# Altium integrated library Altera MAX 7000B.IntLib: 128 symbols (part 2 of 9)
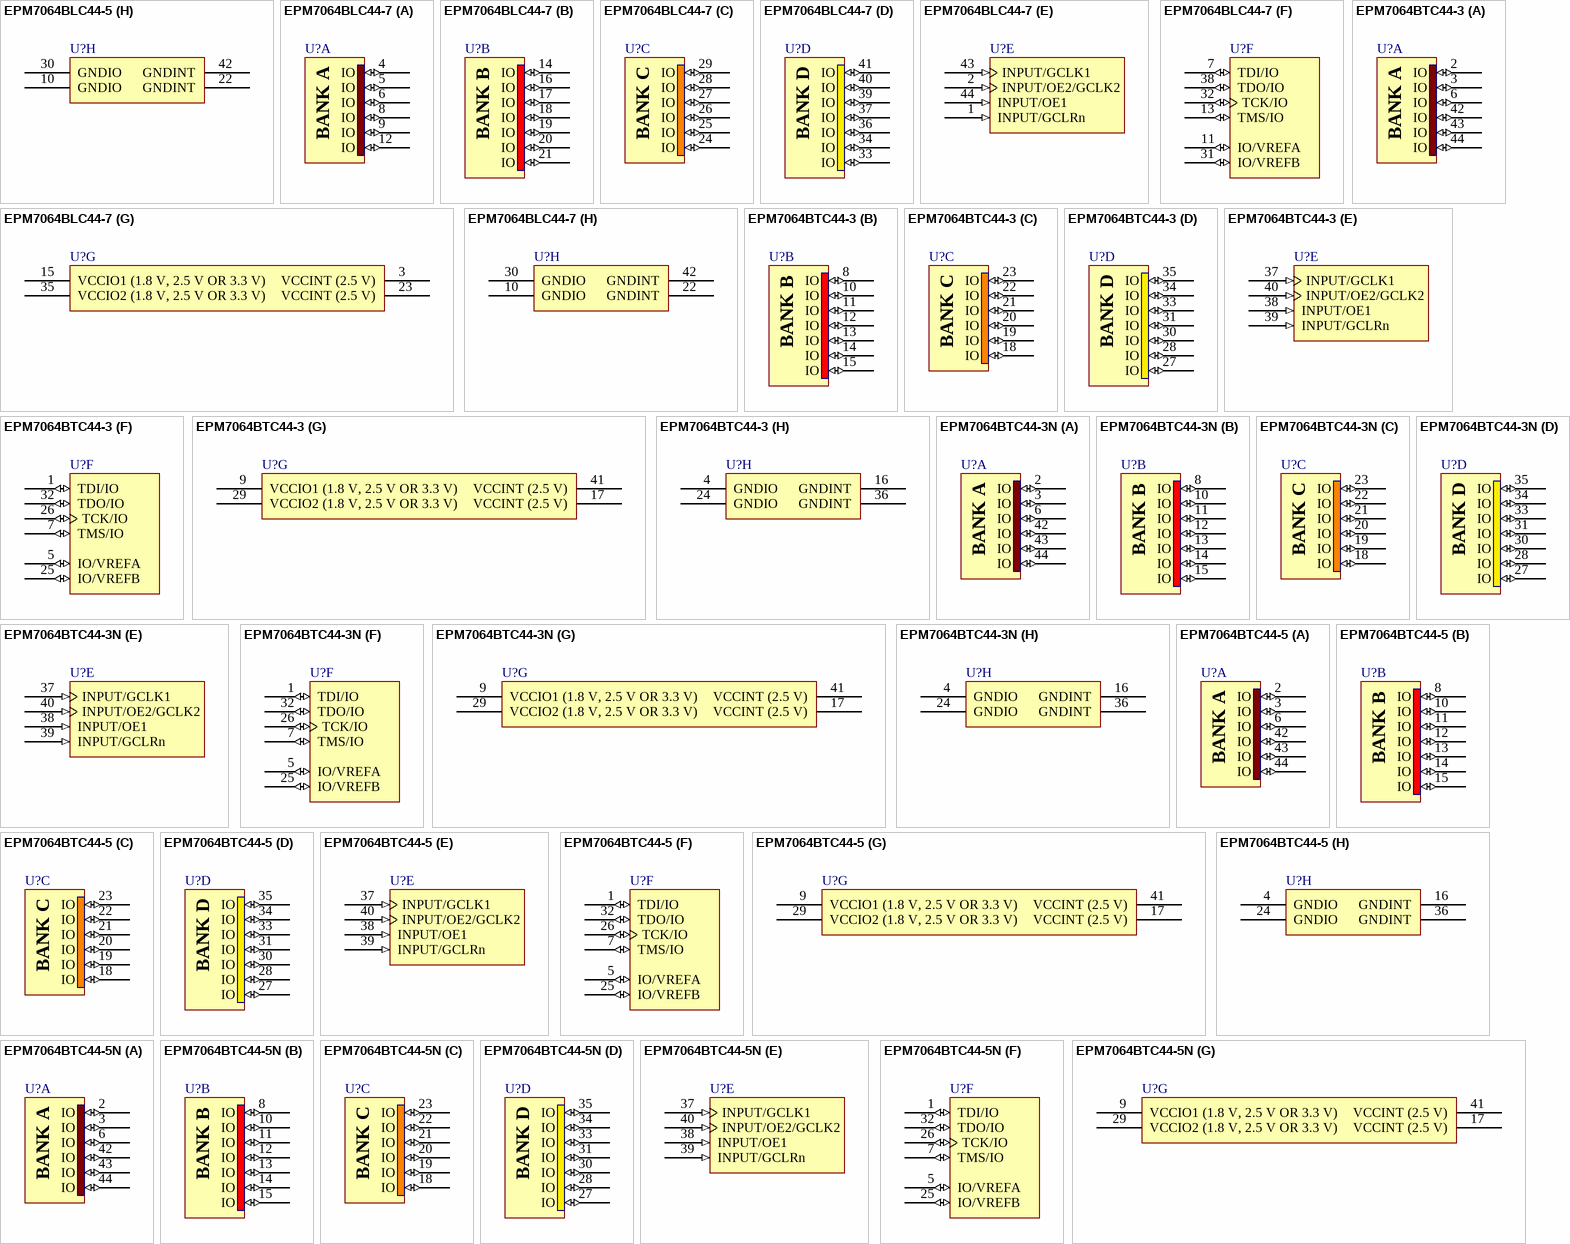
[diagram p48: symbols EPM7064BLC44-5 to EPM7064BTC44-5N]

## EPM7064BTC44-3
designator U?
Max 7000B 2.5V CPLD, 64 Macrocells, 44-Pin TQFP, Speed Grade 3, Commercial Grade; Published: 23-Sep-2002; LatestRevisionDate: 13-Apr-2006; LatestRevisionNote: IPC-7351 Footprint Added.; DatasheetVersion: ver3.5, Sep-2005; PackageVersion: ver14.3, Jul-2006; PackageReference: TQFP44; Publisher: Altium Limited; PackageDescription: 44-Pin Plastic Thin Quad Flat Pack (TFQP44); Supplier 1: Digi-Key; Supplier Part Number 1: 544-2296-ND; Code_JEDEC: MS-026-ACB; ComponentLink1Description: Manufacturer Link; ComponentLink1URL: http://www.altera.com/products/devices/max7k/m7k-index.html; ComponentLink2Description: Datasheet; ComponentLink2URL: http://www.altera.com/literature/ds/m7000b.pdf; ComponentLink3Description: Packaging Specification; ComponentLink3URL: http://www.altera.com/literature/ds/dspkg.pdf
footprint TQFP44_N (Thin QFP, 44-Leads, Body 10x10mm, Pitch 0.8mm, IPC Medium Density)
footprint TQFP44_L (Thin QFP, 44-Leads, Body 10x10mm, Pitch 0.8mm, IPC High Density)
footprint TQFP44_M (Thin QFP, 44-Leads, Body 10x10mm, Pitch 0.8mm, IPC Low Density)
3D model EPM7064B-TQFP44 (44-Pin Plastic Thin Quad Flat Pack (TFQP44))
signal-integrity model 7kb (MAX 7000B)
part A pins: 2 IO (io), 3 IO (io), 6 IO (io), 42 IO (io), 43 IO (io), 44 IO (io)
part B pins: 8 IO (io), 10 IO (io), 11 IO (io), 12 IO (io), 13 IO (io), 14 IO (io), 15 IO (io)
part C pins: 18 IO (io), 19 IO (io), 20 IO (io), 21 IO (io), 22 IO (io), 23 IO (io)
part D pins: 27 IO (io), 28 IO (io), 30 IO (io), 31 IO (io), 33 IO (io), 34 IO (io), 35 IO (io)
part E pins: 37 INPUT/GCLK1 (in), 38 INPUT/OE1 (in), 39 INPUT/GCLRn (in), 40 INPUT/OE2/GCLK2 (in)
part F pins: 1 TDI/IO (io), 5 IO/VREFA (io), 7 TMS/IO (io), 25 IO/VREFB (io), 26 TCK/IO (io), 32 TDO/IO (io)
part G pins: 9 VCCIO1 (1.8 V, 2.5 V OR 3.3 V) (power), 17 VCCINT (2.5 V) (power), 29 VCCIO2 (1.8 V, 2.5 V OR 3.3 V) (power), 41 VCCINT (2.5 V) (power)
part H pins: 4 GNDIO (power), 16 GNDINT (power), 24 GNDIO (power), 36 GNDINT (power)
part A text: BANK A
part B text: BANK B
part C text: BANK C
part D text: BANK D

## EPM7064BTC44-3N
designator U?
Max 7000B 2.5V CPLD, 64 Macrocells, 44-Pin TQFP, Speed Grade 3, Commercial Grade, Pb-Free; Published: 13-Apr-2006; DatasheetVersion: ver3.5, Sep-2005; PackageVersion: ver14.3, Jul-2006; PackageReference: TQFP44; Publisher: Altium Limited; PackageDescription: 44-Pin Plastic Thin Quad Flat Pack (TFQP44); Code_JEDEC: MS-026-ACB; ComponentLink1Description: Manufacturer Link; ComponentLink1URL: http://www.altera.com/products/devices/max7k/m7k-index.html; ComponentLink2Description: Datasheet; ComponentLink2URL: http://www.altera.com/literature/ds/m7000b.pdf; ComponentLink3Description: Packaging Specification; ComponentLink3URL: http://www.altera.com/literature/ds/dspkg.pdf
footprint TQFP44_N (Thin QFP, 44-Leads, Body 10x10mm, Pitch 0.8mm, IPC Medium Density)
footprint TQFP44_L (Thin QFP, 44-Leads, Body 10x10mm, Pitch 0.8mm, IPC High Density)
footprint TQFP44_M (Thin QFP, 44-Leads, Body 10x10mm, Pitch 0.8mm, IPC Low Density)
3D model EPM7064B-TQFP44 (44-Pin Plastic Thin Quad Flat Pack (TFQP44))
signal-integrity model 7kb (MAX 7000B)
part A pins: 2 IO (io), 3 IO (io), 6 IO (io), 42 IO (io), 43 IO (io), 44 IO (io)
part B pins: 8 IO (io), 10 IO (io), 11 IO (io), 12 IO (io), 13 IO (io), 14 IO (io), 15 IO (io)
part C pins: 18 IO (io), 19 IO (io), 20 IO (io), 21 IO (io), 22 IO (io), 23 IO (io)
part D pins: 27 IO (io), 28 IO (io), 30 IO (io), 31 IO (io), 33 IO (io), 34 IO (io), 35 IO (io)
part E pins: 37 INPUT/GCLK1 (in), 38 INPUT/OE1 (in), 39 INPUT/GCLRn (in), 40 INPUT/OE2/GCLK2 (in)
part F pins: 1 TDI/IO (io), 5 IO/VREFA (io), 7 TMS/IO (io), 25 IO/VREFB (io), 26 TCK/IO (io), 32 TDO/IO (io)
part G pins: 9 VCCIO1 (1.8 V, 2.5 V OR 3.3 V) (power), 17 VCCINT (2.5 V) (power), 29 VCCIO2 (1.8 V, 2.5 V OR 3.3 V) (power), 41 VCCINT (2.5 V) (power)
part H pins: 4 GNDIO (power), 16 GNDINT (power), 24 GNDIO (power), 36 GNDINT (power)
part A text: BANK A
part B text: BANK B
part C text: BANK C
part D text: BANK D

## EPM7064BTC44-5
designator U?
Max 7000B 2.5V CPLD, 64 Macrocells, 44-Pin TQFP, Speed Grade 5, Commercial Grade; Published: 23-Sep-2002; LatestRevisionDate: 13-Apr-2006; LatestRevisionNote: IPC-7351 Footprint Added.; DatasheetVersion: ver3.5, Sep-2005; PackageVersion: ver14.3, Jul-2006; PackageReference: TQFP44; Publisher: Altium Limited; PackageDescription: 44-Pin Plastic Thin Quad Flat Pack (TFQP44); Code_JEDEC: MS-026-ACB; ComponentLink1Description: Manufacturer Link; ComponentLink1URL: http://www.altera.com/products/devices/max7k/m7k-index.html; ComponentLink2Description: Datasheet; ComponentLink2URL: http://www.altera.com/literature/ds/m7000b.pdf; ComponentLink3Description: Packaging Specification; ComponentLink3URL: http://www.altera.com/literature/ds/dspkg.pdf
footprint TQFP44_N (Thin QFP, 44-Leads, Body 10x10mm, Pitch 0.8mm, IPC Medium Density)
footprint TQFP44_L (Thin QFP, 44-Leads, Body 10x10mm, Pitch 0.8mm, IPC High Density)
footprint TQFP44_M (Thin QFP, 44-Leads, Body 10x10mm, Pitch 0.8mm, IPC Low Density)
3D model EPM7064B-TQFP44 (44-Pin Plastic Thin Quad Flat Pack (TFQP44))
signal-integrity model 7kb (MAX 7000B)
part A pins: 2 IO (io), 3 IO (io), 6 IO (io), 42 IO (io), 43 IO (io), 44 IO (io)
part B pins: 8 IO (io), 10 IO (io), 11 IO (io), 12 IO (io), 13 IO (io), 14 IO (io), 15 IO (io)
part C pins: 18 IO (io), 19 IO (io), 20 IO (io), 21 IO (io), 22 IO (io), 23 IO (io)
part D pins: 27 IO (io), 28 IO (io), 30 IO (io), 31 IO (io), 33 IO (io), 34 IO (io), 35 IO (io)
part E pins: 37 INPUT/GCLK1 (in), 38 INPUT/OE1 (in), 39 INPUT/GCLRn (in), 40 INPUT/OE2/GCLK2 (in)
part F pins: 1 TDI/IO (io), 5 IO/VREFA (io), 7 TMS/IO (io), 25 IO/VREFB (io), 26 TCK/IO (io), 32 TDO/IO (io)
part G pins: 9 VCCIO1 (1.8 V, 2.5 V OR 3.3 V) (power), 17 VCCINT (2.5 V) (power), 29 VCCIO2 (1.8 V, 2.5 V OR 3.3 V) (power), 41 VCCINT (2.5 V) (power)
part H pins: 4 GNDIO (power), 16 GNDINT (power), 24 GNDIO (power), 36 GNDINT (power)
part A text: BANK A
part B text: BANK B
part C text: BANK C
part D text: BANK D

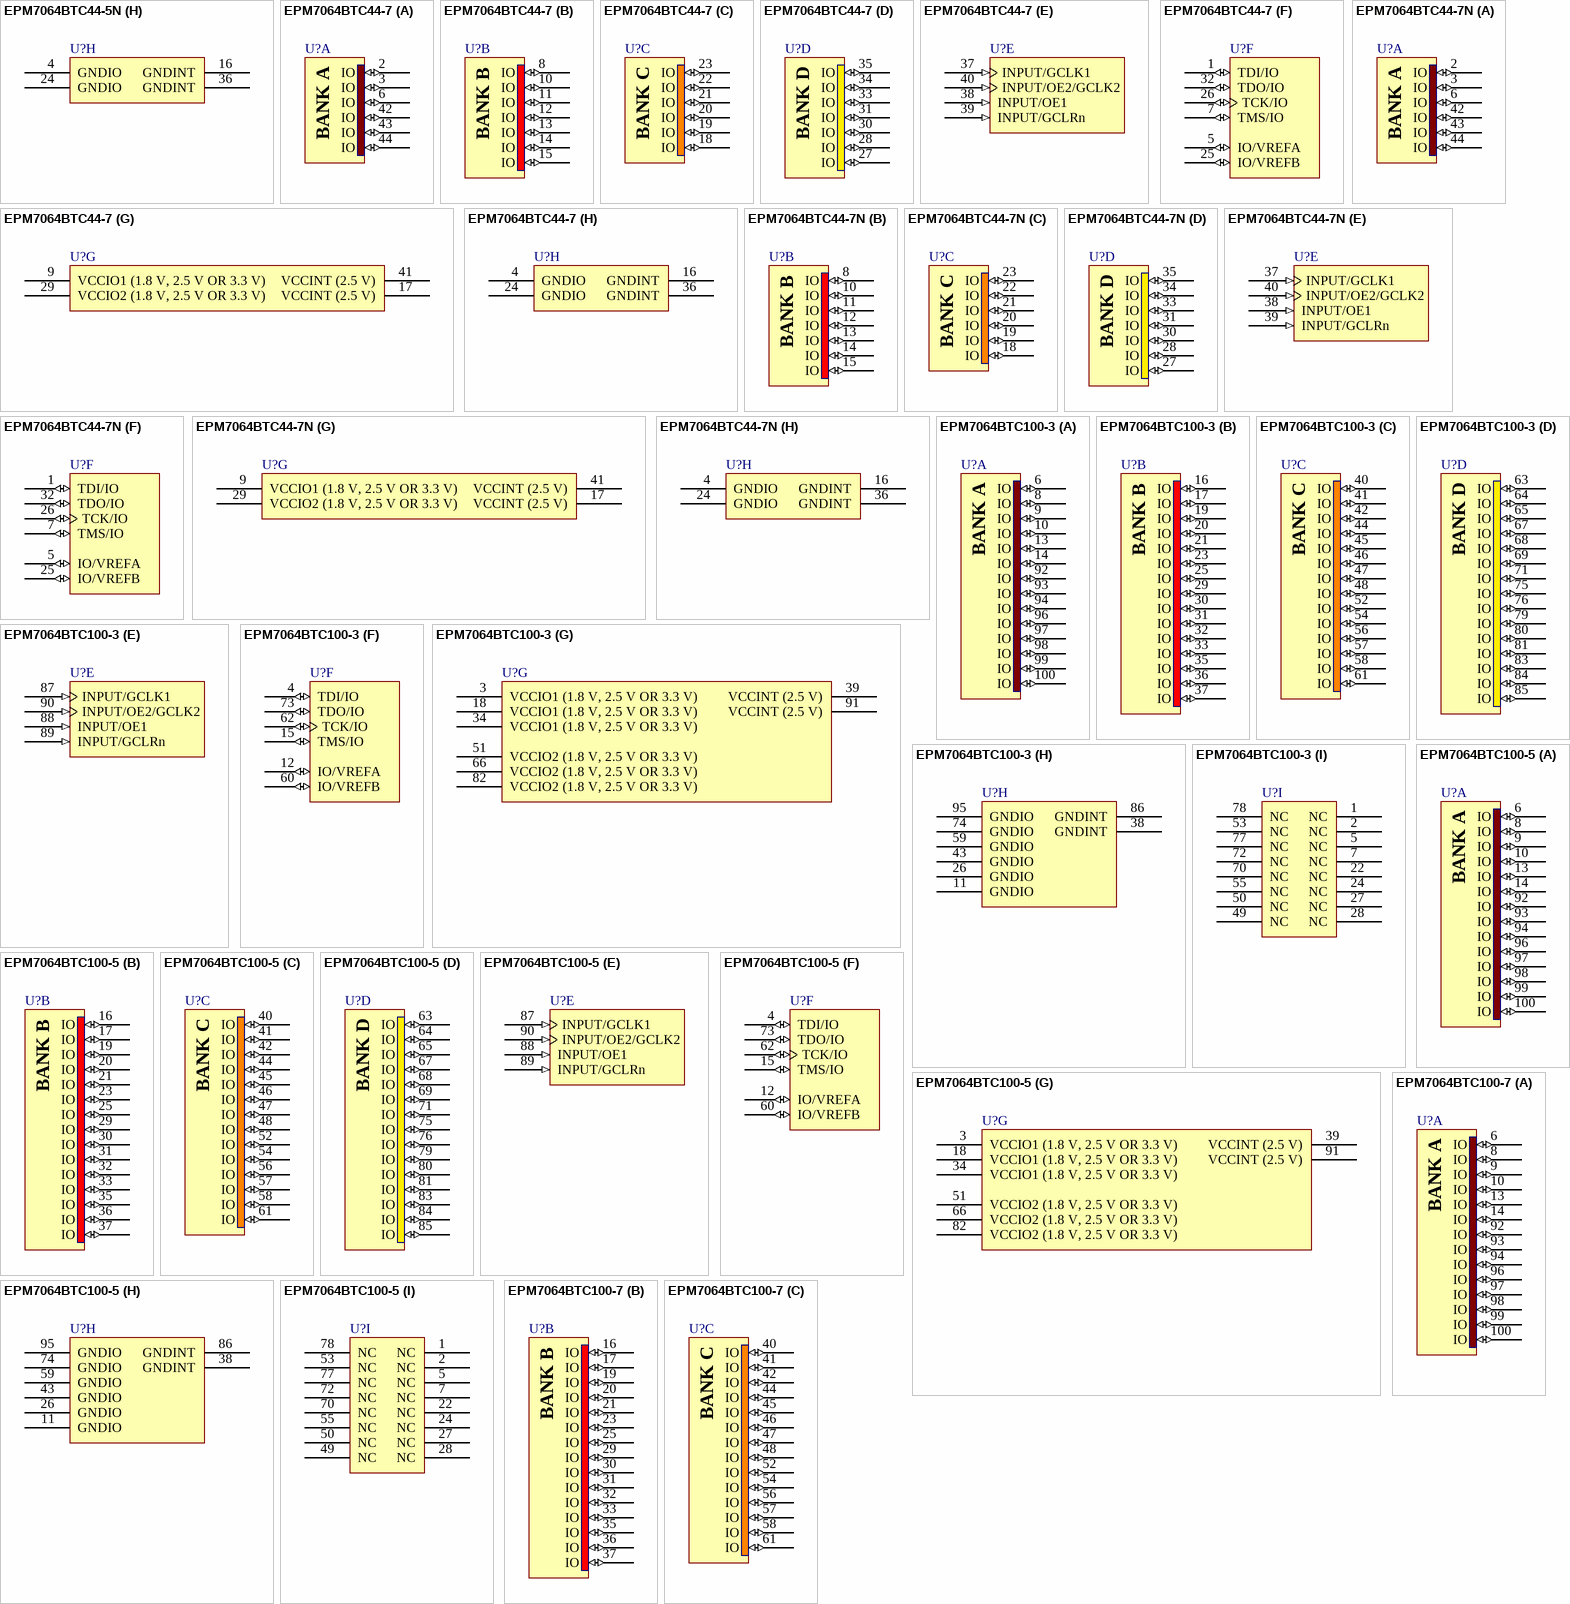
[diagram p6: symbols EPM7064BTC44-5N to EPM7064BTC100-7]

## EPM7064BTC44-5N
designator U?
Max 7000B 2.5V CPLD, 64 Macrocells, 44-Pin TQFP, Speed Grade 5, Commercial Grade, Pb-Free; Published: 13-Apr-2006; DatasheetVersion: ver3.5, Sep-2005; PackageVersion: ver14.3, Jul-2006; PackageReference: TQFP44; Publisher: Altium Limited; PackageDescription: 44-Pin Plastic Thin Quad Flat Pack (TFQP44); Code_JEDEC: MS-026-ACB; ComponentLink1Description: Manufacturer Link; ComponentLink1URL: http://www.altera.com/products/devices/max7k/m7k-index.html; ComponentLink2Description: Datasheet; ComponentLink2URL: http://www.altera.com/literature/ds/m7000b.pdf; ComponentLink3Description: Packaging Specification; ComponentLink3URL: http://www.altera.com/literature/ds/dspkg.pdf
footprint TQFP44_N (Thin QFP, 44-Leads, Body 10x10mm, Pitch 0.8mm, IPC Medium Density)
footprint TQFP44_L (Thin QFP, 44-Leads, Body 10x10mm, Pitch 0.8mm, IPC High Density)
footprint TQFP44_M (Thin QFP, 44-Leads, Body 10x10mm, Pitch 0.8mm, IPC Low Density)
3D model EPM7064B-TQFP44 (44-Pin Plastic Thin Quad Flat Pack (TFQP44))
signal-integrity model 7kb (MAX 7000B)
part A pins: 2 IO (io), 3 IO (io), 6 IO (io), 42 IO (io), 43 IO (io), 44 IO (io)
part B pins: 8 IO (io), 10 IO (io), 11 IO (io), 12 IO (io), 13 IO (io), 14 IO (io), 15 IO (io)
part C pins: 18 IO (io), 19 IO (io), 20 IO (io), 21 IO (io), 22 IO (io), 23 IO (io)
part D pins: 27 IO (io), 28 IO (io), 30 IO (io), 31 IO (io), 33 IO (io), 34 IO (io), 35 IO (io)
part E pins: 37 INPUT/GCLK1 (in), 38 INPUT/OE1 (in), 39 INPUT/GCLRn (in), 40 INPUT/OE2/GCLK2 (in)
part F pins: 1 TDI/IO (io), 5 IO/VREFA (io), 7 TMS/IO (io), 25 IO/VREFB (io), 26 TCK/IO (io), 32 TDO/IO (io)
part G pins: 9 VCCIO1 (1.8 V, 2.5 V OR 3.3 V) (power), 17 VCCINT (2.5 V) (power), 29 VCCIO2 (1.8 V, 2.5 V OR 3.3 V) (power), 41 VCCINT (2.5 V) (power)
part H pins: 4 GNDIO (power), 16 GNDINT (power), 24 GNDIO (power), 36 GNDINT (power)
part A text: BANK A
part B text: BANK B
part C text: BANK C
part D text: BANK D

## EPM7064BTC44-7
designator U?
Max 7000B 2.5V CPLD, 64 Macrocells, 44-Pin TQFP, Speed Grade 7, Commercial Grade; Published: 23-Sep-2002; LatestRevisionDate: 13-Apr-2006; LatestRevisionNote: IPC-7351 Footprint Added.; DatasheetVersion: ver3.5, Sep-2005; PackageVersion: ver14.3, Jul-2006; PackageReference: TQFP44; Publisher: Altium Limited; PackageDescription: 44-Pin Plastic Thin Quad Flat Pack (TFQP44); Code_JEDEC: MS-026-ACB; ComponentLink1Description: Manufacturer Link; ComponentLink1URL: http://www.altera.com/products/devices/max7k/m7k-index.html; ComponentLink2Description: Datasheet; ComponentLink2URL: http://www.altera.com/literature/ds/m7000b.pdf; ComponentLink3Description: Packaging Specification; ComponentLink3URL: http://www.altera.com/literature/ds/dspkg.pdf
footprint TQFP44_N (Thin QFP, 44-Leads, Body 10x10mm, Pitch 0.8mm, IPC Medium Density)
footprint TQFP44_L (Thin QFP, 44-Leads, Body 10x10mm, Pitch 0.8mm, IPC High Density)
footprint TQFP44_M (Thin QFP, 44-Leads, Body 10x10mm, Pitch 0.8mm, IPC Low Density)
3D model EPM7064B-TQFP44 (44-Pin Plastic Thin Quad Flat Pack (TFQP44))
signal-integrity model 7kb (MAX 7000B)
part A pins: 2 IO (io), 3 IO (io), 6 IO (io), 42 IO (io), 43 IO (io), 44 IO (io)
part B pins: 8 IO (io), 10 IO (io), 11 IO (io), 12 IO (io), 13 IO (io), 14 IO (io), 15 IO (io)
part C pins: 18 IO (io), 19 IO (io), 20 IO (io), 21 IO (io), 22 IO (io), 23 IO (io)
part D pins: 27 IO (io), 28 IO (io), 30 IO (io), 31 IO (io), 33 IO (io), 34 IO (io), 35 IO (io)
part E pins: 37 INPUT/GCLK1 (in), 38 INPUT/OE1 (in), 39 INPUT/GCLRn (in), 40 INPUT/OE2/GCLK2 (in)
part F pins: 1 TDI/IO (io), 5 IO/VREFA (io), 7 TMS/IO (io), 25 IO/VREFB (io), 26 TCK/IO (io), 32 TDO/IO (io)
part G pins: 9 VCCIO1 (1.8 V, 2.5 V OR 3.3 V) (power), 17 VCCINT (2.5 V) (power), 29 VCCIO2 (1.8 V, 2.5 V OR 3.3 V) (power), 41 VCCINT (2.5 V) (power)
part H pins: 4 GNDIO (power), 16 GNDINT (power), 24 GNDIO (power), 36 GNDINT (power)
part A text: BANK A
part B text: BANK B
part C text: BANK C
part D text: BANK D

## EPM7064BTC44-7N
designator U?
Max 7000B 2.5V CPLD, 64 Macrocells, 44-Pin TQFP, Speed Grade 7, Commercial Grade, Pb-Free; Published: 4-Mar-2005; LatestRevisionDate: 13-Apr-2006; LatestRevisionNote: IPC-7351 Footprint Added.; DatasheetVersion: ver3.5, Sep-2005; PackageVersion: ver14.3, Jul-2006; PackageReference: TQFP44; Publisher: Altium Limited; PackageDescription: 44-Pin Plastic Thin Quad Flat Pack (TFQP44); Code_JEDEC: MS-026-ACB; ComponentLink1Description: Manufacturer Link; ComponentLink1URL: http://www.altera.com/products/devices/max7k/m7k-index.html; ComponentLink2Description: Datasheet; ComponentLink2URL: http://www.altera.com/literature/ds/m7000b.pdf; ComponentLink3Description: Packaging Specification; ComponentLink3URL: http://www.altera.com/literature/ds/dspkg.pdf
footprint TQFP44_N (Thin QFP, 44-Leads, Body 10x10mm, Pitch 0.8mm, IPC Medium Density)
footprint TQFP44_L (Thin QFP, 44-Leads, Body 10x10mm, Pitch 0.8mm, IPC High Density)
footprint TQFP44_M (Thin QFP, 44-Leads, Body 10x10mm, Pitch 0.8mm, IPC Low Density)
3D model EPM7064B-TQFP44 (44-Pin Plastic Thin Quad Flat Pack (TFQP44))
signal-integrity model 7kb (MAX 7000B)
part A pins: 2 IO (io), 3 IO (io), 6 IO (io), 42 IO (io), 43 IO (io), 44 IO (io)
part B pins: 8 IO (io), 10 IO (io), 11 IO (io), 12 IO (io), 13 IO (io), 14 IO (io), 15 IO (io)
part C pins: 18 IO (io), 19 IO (io), 20 IO (io), 21 IO (io), 22 IO (io), 23 IO (io)
part D pins: 27 IO (io), 28 IO (io), 30 IO (io), 31 IO (io), 33 IO (io), 34 IO (io), 35 IO (io)
part E pins: 37 INPUT/GCLK1 (in), 38 INPUT/OE1 (in), 39 INPUT/GCLRn (in), 40 INPUT/OE2/GCLK2 (in)
part F pins: 1 TDI/IO (io), 5 IO/VREFA (io), 7 TMS/IO (io), 25 IO/VREFB (io), 26 TCK/IO (io), 32 TDO/IO (io)
part G pins: 9 VCCIO1 (1.8 V, 2.5 V OR 3.3 V) (power), 17 VCCINT (2.5 V) (power), 29 VCCIO2 (1.8 V, 2.5 V OR 3.3 V) (power), 41 VCCINT (2.5 V) (power)
part H pins: 4 GNDIO (power), 16 GNDINT (power), 24 GNDIO (power), 36 GNDINT (power)
part A text: BANK A
part B text: BANK B
part C text: BANK C
part D text: BANK D

## EPM7064BTC100-3
designator U?
Max 7000B 2.5V CPLD, 64 Macrocells, 100-Pin TQFP, Speed Grade 3, Commercial Grade; Published: 17-Sep-2003; LatestRevisionDate: 13-Apr-2006; LatestRevisionNote: IPC-7351 Footprint Added.; DatasheetVersion: ver3.5, Sep-2005; PackageVersion: ver15.1, May-2008; PackageReference: TQFP100; Publisher: Altium Limited; PackageDescription: 100-Pin Plastic Thin Quad Flat Pack (TQFP100) - Wire Bond; Code_JEDEC: MS-026-AED; ComponentLink1Description: Manufacturer Link; ComponentLink1URL: http://www.altera.com/products/devices/max7k/m7k-index.html; ComponentLink2Description: Datasheet; ComponentLink2URL: http://www.altera.com/literature/ds/m7000b.pdf; ComponentLink3Description: Packaging Specification; ComponentLink3URL: http://www.altera.com/literature/ds/dspkg.pdf
footprint TQFP100_N (Thin QFP, 100-Leads, Body 14x14mm, Pitch 0.5mm, IPC Medium Density)
footprint TQFP100_L (Thin QFP, 100-Leads, Body 14x14mm, Pitch 0.5mm, IPC High Density)
footprint TQFP100_M (Thin QFP, 100-Leads, Body 14x14mm, Pitch 0.5mm, IPC Low Density)
3D model EPM7064B-TQFP100 (100-Pin Plastic Thin Quad Flat Pack (TQFP100) - Wire Bond)
signal-integrity model 7kb (MAX 7000B)
part A pins: 6 IO (io), 8 IO (io), 9 IO (io), 10 IO (io), 13 IO (io), 14 IO (io), 92 IO (io), 93 IO (io), 94 IO (io), 96 IO (io), 97 IO (io), 98 IO (io), 99 IO (io), 100 IO (io)
part B pins: 16 IO (io), 17 IO (io), 19 IO (io), 20 IO (io), 21 IO (io), 23 IO (io), 25 IO (io), 29 IO (io), 30 IO (io), 31 IO (io), 32 IO (io), 33 IO (io), 35 IO (io), 36 IO (io), 37 IO (io)
part C pins: 40 IO (io), 41 IO (io), 42 IO (io), 44 IO (io), 45 IO (io), 46 IO (io), 47 IO (io), 48 IO (io), 52 IO (io), 54 IO (io), 56 IO (io), 57 IO (io), 58 IO (io), 61 IO (io)
part D pins: 63 IO (io), 64 IO (io), 65 IO (io), 67 IO (io), 68 IO (io), 69 IO (io), 71 IO (io), 75 IO (io), 76 IO (io), 79 IO (io), 80 IO (io), 81 IO (io), 83 IO (io), 84 IO (io), 85 IO (io)
part E pins: 87 INPUT/GCLK1 (in), 88 INPUT/OE1 (in), 89 INPUT/GCLRn (in), 90 INPUT/OE2/GCLK2 (in)
part F pins: 4 TDI/IO (io), 12 IO/VREFA (io), 15 TMS/IO (io), 60 IO/VREFB (io), 62 TCK/IO (io), 73 TDO/IO (io)
part G pins: 3 VCCIO1 (1.8 V, 2.5 V OR 3.3 V) (power), 18 VCCIO1 (1.8 V, 2.5 V OR 3.3 V) (power), 34 VCCIO1 (1.8 V, 2.5 V OR 3.3 V) (power), 39 VCCINT (2.5 V) (power), 51 VCCIO2 (1.8 V, 2.5 V OR 3.3 V) (power), 66 VCCIO2 (1.8 V, 2.5 V OR 3.3 V) (power), 82 VCCIO2 (1.8 V, 2.5 V OR 3.3 V) (power), 91 VCCINT (2.5 V) (power)
part H pins: 11 GNDIO (power), 26 GNDIO (power), 38 GNDINT (power), 43 GNDIO (power), 59 GNDIO (power), 74 GNDIO (power), 86 GNDINT (power), 95 GNDIO (power)
part I pins: 1 NC, 2 NC, 5 NC, 7 NC, 22 NC, 24 NC, 27 NC, 28 NC, 49 NC, 50 NC, 53 NC, 55 NC, 70 NC, 72 NC, 77 NC, 78 NC
part A text: BANK A
part B text: BANK B
part C text: BANK C
part D text: BANK D

## EPM7064BTC100-5
designator U?
Max 7000B 2.5V CPLD, 64 Macrocells, 100-Pin TQFP, Speed Grade 5, Commercial Grade; Published: 17-Sep-2003; LatestRevisionDate: 13-Apr-2006; LatestRevisionNote: IPC-7351 Footprint Added.; DatasheetVersion: ver3.5, Sep-2005; PackageVersion: ver15.1, May-2008; PackageReference: TQFP100; Publisher: Altium Limited; PackageDescription: 100-Pin Plastic Thin Quad Flat Pack (TQFP100) - Wire Bond; Supplier 1: Digi-Key; Supplier Part Number 1: EPM7064BTC100-5-ND; Code_JEDEC: MS-026-AED; ComponentLink1Description: Manufacturer Link; ComponentLink1URL: http://www.altera.com/products/devices/max7k/m7k-index.html; ComponentLink2Description: Datasheet; ComponentLink2URL: http://www.altera.com/literature/ds/m7000b.pdf; ComponentLink3Description: Packaging Specification; ComponentLink3URL: http://www.altera.com/literature/ds/dspkg.pdf
footprint TQFP100_N (Thin QFP, 100-Leads, Body 14x14mm, Pitch 0.5mm, IPC Medium Density)
footprint TQFP100_L (Thin QFP, 100-Leads, Body 14x14mm, Pitch 0.5mm, IPC High Density)
footprint TQFP100_M (Thin QFP, 100-Leads, Body 14x14mm, Pitch 0.5mm, IPC Low Density)
3D model EPM7064B-TQFP100 (100-Pin Plastic Thin Quad Flat Pack (TQFP100) - Wire Bond)
signal-integrity model 7kb (MAX 7000B)
part A pins: 6 IO (io), 8 IO (io), 9 IO (io), 10 IO (io), 13 IO (io), 14 IO (io), 92 IO (io), 93 IO (io), 94 IO (io), 96 IO (io), 97 IO (io), 98 IO (io), 99 IO (io), 100 IO (io)
part B pins: 16 IO (io), 17 IO (io), 19 IO (io), 20 IO (io), 21 IO (io), 23 IO (io), 25 IO (io), 29 IO (io), 30 IO (io), 31 IO (io), 32 IO (io), 33 IO (io), 35 IO (io), 36 IO (io), 37 IO (io)
part C pins: 40 IO (io), 41 IO (io), 42 IO (io), 44 IO (io), 45 IO (io), 46 IO (io), 47 IO (io), 48 IO (io), 52 IO (io), 54 IO (io), 56 IO (io), 57 IO (io), 58 IO (io), 61 IO (io)
part D pins: 63 IO (io), 64 IO (io), 65 IO (io), 67 IO (io), 68 IO (io), 69 IO (io), 71 IO (io), 75 IO (io), 76 IO (io), 79 IO (io), 80 IO (io), 81 IO (io), 83 IO (io), 84 IO (io), 85 IO (io)
part E pins: 87 INPUT/GCLK1 (in), 88 INPUT/OE1 (in), 89 INPUT/GCLRn (in), 90 INPUT/OE2/GCLK2 (in)
part F pins: 4 TDI/IO (io), 12 IO/VREFA (io), 15 TMS/IO (io), 60 IO/VREFB (io), 62 TCK/IO (io), 73 TDO/IO (io)
part G pins: 3 VCCIO1 (1.8 V, 2.5 V OR 3.3 V) (power), 18 VCCIO1 (1.8 V, 2.5 V OR 3.3 V) (power), 34 VCCIO1 (1.8 V, 2.5 V OR 3.3 V) (power), 39 VCCINT (2.5 V) (power), 51 VCCIO2 (1.8 V, 2.5 V OR 3.3 V) (power), 66 VCCIO2 (1.8 V, 2.5 V OR 3.3 V) (power), 82 VCCIO2 (1.8 V, 2.5 V OR 3.3 V) (power), 91 VCCINT (2.5 V) (power)
part H pins: 11 GNDIO (power), 26 GNDIO (power), 38 GNDINT (power), 43 GNDIO (power), 59 GNDIO (power), 74 GNDIO (power), 86 GNDINT (power), 95 GNDIO (power)
part I pins: 1 NC, 2 NC, 5 NC, 7 NC, 22 NC, 24 NC, 27 NC, 28 NC, 49 NC, 50 NC, 53 NC, 55 NC, 70 NC, 72 NC, 77 NC, 78 NC
part A text: BANK A
part B text: BANK B
part C text: BANK C
part D text: BANK D

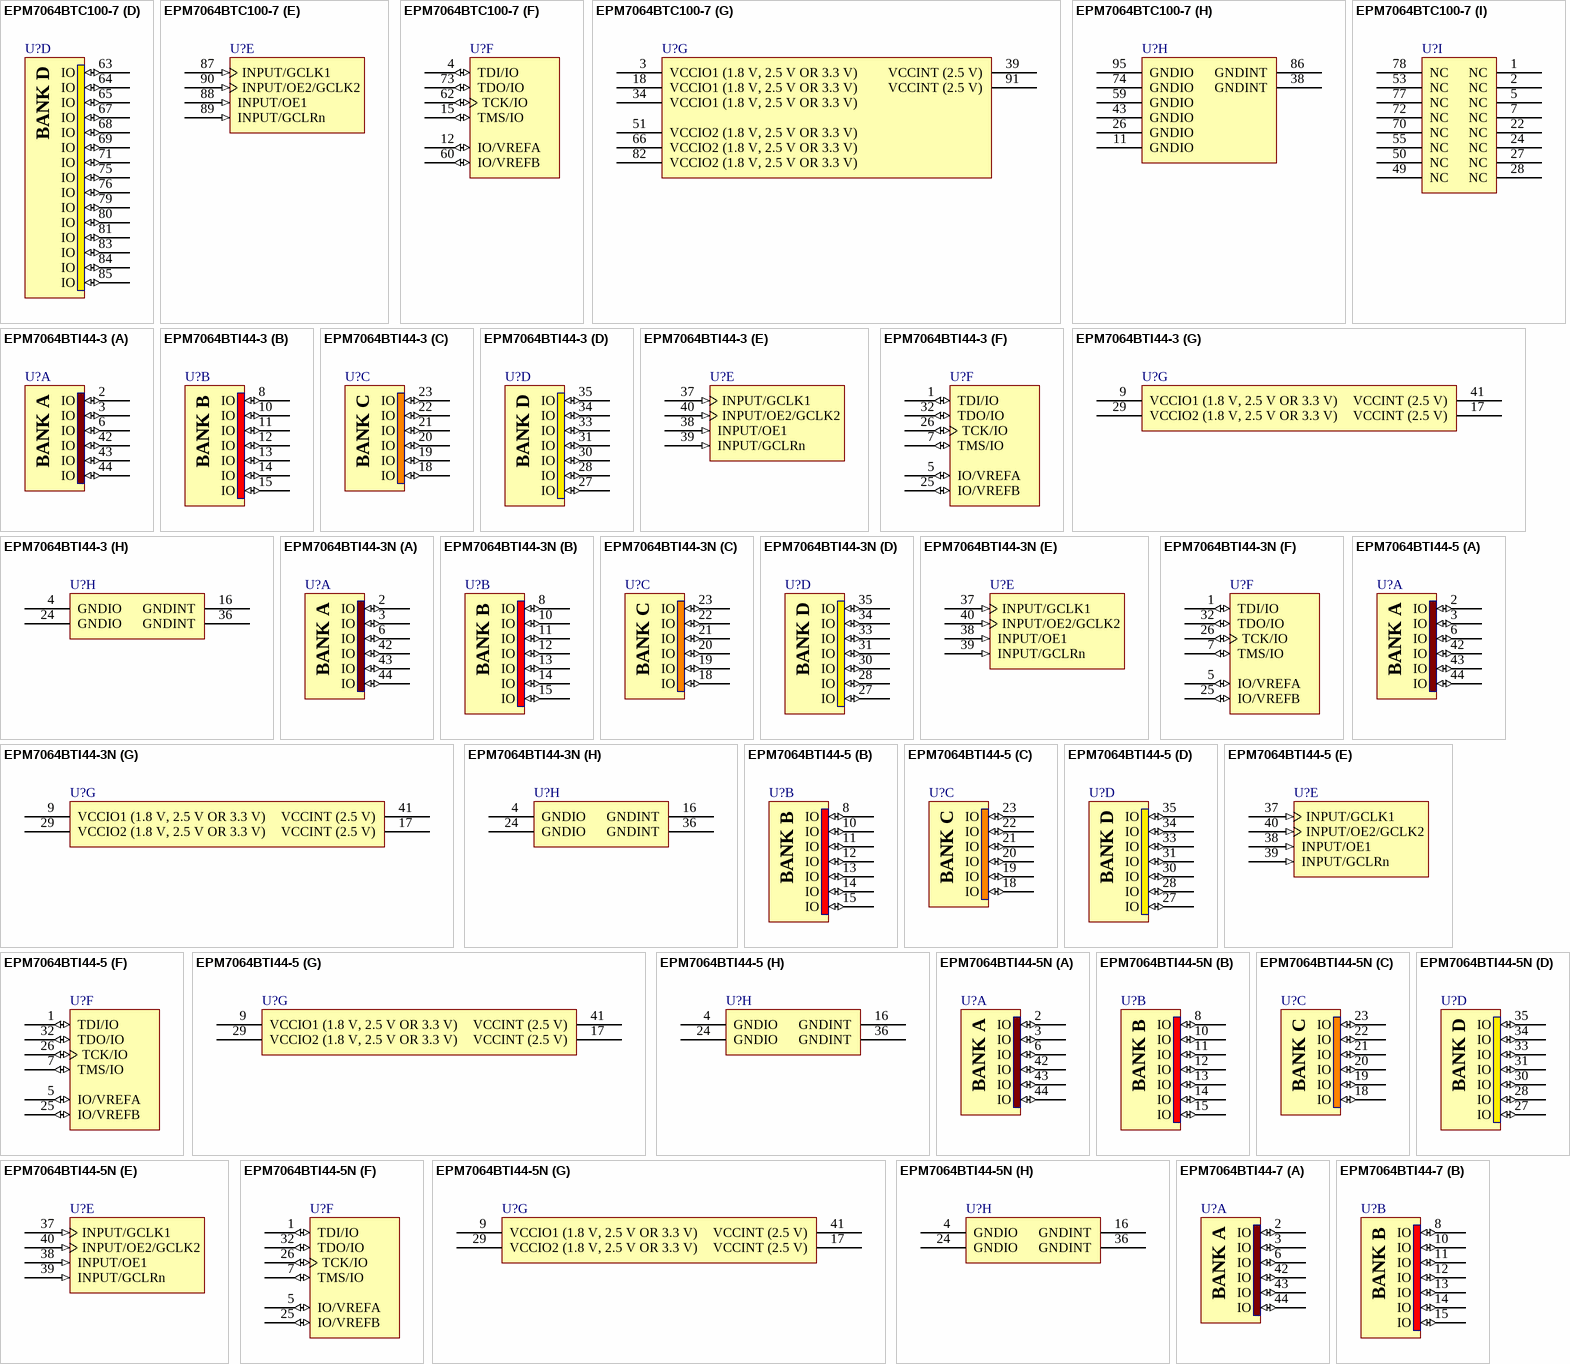
[diagram p7: symbols EPM7064BTC100-7 to EPM7064BTI44-7]

## EPM7064BTC100-7
designator U?
Max 7000B 2.5V CPLD, 64 Macrocells, 100-Pin TQFP, Speed Grade 7, Commercial Grade; Published: 23-Sep-2002; LatestRevisionDate: 13-Apr-2006; LatestRevisionNote: IPC-7351 Footprint Added.; DatasheetVersion: ver3.5, Sep-2005; PackageVersion: ver15.1, May-2008; PackageReference: TQFP100; Publisher: Altium Limited; PackageDescription: 100-Pin Plastic Thin Quad Flat Pack (TQFP100) - Wire Bond; Code_JEDEC: MS-026-AED; ComponentLink1Description: Manufacturer Link; ComponentLink1URL: http://www.altera.com/products/devices/max7k/m7k-index.html; ComponentLink2Description: Datasheet; ComponentLink2URL: http://www.altera.com/literature/ds/m7000b.pdf; ComponentLink3Description: Packaging Specification; ComponentLink3URL: http://www.altera.com/literature/ds/dspkg.pdf
footprint TQFP100_N (Thin QFP, 100-Leads, Body 14x14mm, Pitch 0.5mm, IPC Medium Density)
footprint TQFP100_L (Thin QFP, 100-Leads, Body 14x14mm, Pitch 0.5mm, IPC High Density)
footprint TQFP100_M (Thin QFP, 100-Leads, Body 14x14mm, Pitch 0.5mm, IPC Low Density)
3D model EPM7064B-TQFP100 (100-Pin Plastic Thin Quad Flat Pack (TQFP100) - Wire Bond)
signal-integrity model 7kb (MAX 7000B)
part A pins: 6 IO (io), 8 IO (io), 9 IO (io), 10 IO (io), 13 IO (io), 14 IO (io), 92 IO (io), 93 IO (io), 94 IO (io), 96 IO (io), 97 IO (io), 98 IO (io), 99 IO (io), 100 IO (io)
part B pins: 16 IO (io), 17 IO (io), 19 IO (io), 20 IO (io), 21 IO (io), 23 IO (io), 25 IO (io), 29 IO (io), 30 IO (io), 31 IO (io), 32 IO (io), 33 IO (io), 35 IO (io), 36 IO (io), 37 IO (io)
part C pins: 40 IO (io), 41 IO (io), 42 IO (io), 44 IO (io), 45 IO (io), 46 IO (io), 47 IO (io), 48 IO (io), 52 IO (io), 54 IO (io), 56 IO (io), 57 IO (io), 58 IO (io), 61 IO (io)
part D pins: 63 IO (io), 64 IO (io), 65 IO (io), 67 IO (io), 68 IO (io), 69 IO (io), 71 IO (io), 75 IO (io), 76 IO (io), 79 IO (io), 80 IO (io), 81 IO (io), 83 IO (io), 84 IO (io), 85 IO (io)
part E pins: 87 INPUT/GCLK1 (in), 88 INPUT/OE1 (in), 89 INPUT/GCLRn (in), 90 INPUT/OE2/GCLK2 (in)
part F pins: 4 TDI/IO (io), 12 IO/VREFA (io), 15 TMS/IO (io), 60 IO/VREFB (io), 62 TCK/IO (io), 73 TDO/IO (io)
part G pins: 3 VCCIO1 (1.8 V, 2.5 V OR 3.3 V) (power), 18 VCCIO1 (1.8 V, 2.5 V OR 3.3 V) (power), 34 VCCIO1 (1.8 V, 2.5 V OR 3.3 V) (power), 39 VCCINT (2.5 V) (power), 51 VCCIO2 (1.8 V, 2.5 V OR 3.3 V) (power), 66 VCCIO2 (1.8 V, 2.5 V OR 3.3 V) (power), 82 VCCIO2 (1.8 V, 2.5 V OR 3.3 V) (power), 91 VCCINT (2.5 V) (power)
part H pins: 11 GNDIO (power), 26 GNDIO (power), 38 GNDINT (power), 43 GNDIO (power), 59 GNDIO (power), 74 GNDIO (power), 86 GNDINT (power), 95 GNDIO (power)
part I pins: 1 NC, 2 NC, 5 NC, 7 NC, 22 NC, 24 NC, 27 NC, 28 NC, 49 NC, 50 NC, 53 NC, 55 NC, 70 NC, 72 NC, 77 NC, 78 NC
part A text: BANK A
part B text: BANK B
part C text: BANK C
part D text: BANK D

## EPM7064BTI44-3
designator U?
Max 7000B 2.5V CPLD, 64 Macrocells, 44-Pin TQFP, Speed Grade 3, Industrial Grade; Published: 17-Sep-2003; LatestRevisionDate: 13-Apr-2006; LatestRevisionNote: IPC-7351 Footprint Added.; DatasheetVersion: ver3.5, Sep-2005; PackageVersion: ver14.3, Jul-2006; PackageReference: TQFP44; Publisher: Altium Limited; PackageDescription: 44-Pin Plastic Thin Quad Flat Pack (TFQP44); Code_JEDEC: MS-026-ACB; ComponentLink1Description: Manufacturer Link; ComponentLink1URL: http://www.altera.com/products/devices/max7k/m7k-index.html; ComponentLink2Description: Datasheet; ComponentLink2URL: http://www.altera.com/literature/ds/m7000b.pdf; ComponentLink3Description: Packaging Specification; ComponentLink3URL: http://www.altera.com/literature/ds/dspkg.pdf
footprint TQFP44_N (Thin QFP, 44-Leads, Body 10x10mm, Pitch 0.8mm, IPC Medium Density)
footprint TQFP44_L (Thin QFP, 44-Leads, Body 10x10mm, Pitch 0.8mm, IPC High Density)
footprint TQFP44_M (Thin QFP, 44-Leads, Body 10x10mm, Pitch 0.8mm, IPC Low Density)
3D model EPM7064B-TQFP44 (44-Pin Plastic Thin Quad Flat Pack (TFQP44))
signal-integrity model 7kb (MAX 7000B)
part A pins: 2 IO (io), 3 IO (io), 6 IO (io), 42 IO (io), 43 IO (io), 44 IO (io)
part B pins: 8 IO (io), 10 IO (io), 11 IO (io), 12 IO (io), 13 IO (io), 14 IO (io), 15 IO (io)
part C pins: 18 IO (io), 19 IO (io), 20 IO (io), 21 IO (io), 22 IO (io), 23 IO (io)
part D pins: 27 IO (io), 28 IO (io), 30 IO (io), 31 IO (io), 33 IO (io), 34 IO (io), 35 IO (io)
part E pins: 37 INPUT/GCLK1 (in), 38 INPUT/OE1 (in), 39 INPUT/GCLRn (in), 40 INPUT/OE2/GCLK2 (in)
part F pins: 1 TDI/IO (io), 5 IO/VREFA (io), 7 TMS/IO (io), 25 IO/VREFB (io), 26 TCK/IO (io), 32 TDO/IO (io)
part G pins: 9 VCCIO1 (1.8 V, 2.5 V OR 3.3 V) (power), 17 VCCINT (2.5 V) (power), 29 VCCIO2 (1.8 V, 2.5 V OR 3.3 V) (power), 41 VCCINT (2.5 V) (power)
part H pins: 4 GNDIO (power), 16 GNDINT (power), 24 GNDIO (power), 36 GNDINT (power)
part A text: BANK A
part B text: BANK B
part C text: BANK C
part D text: BANK D

## EPM7064BTI44-3N
designator U?
Max 7000B 2.5V CPLD, 64 Macrocells, 44-Pin TQFP, Speed Grade 3, Industrial Grade, Pb-Free; Published: 13-Apr-2006; DatasheetVersion: ver3.5, Sep-2005; PackageVersion: ver14.3, Jul-2006; PackageReference: TQFP44; Publisher: Altium Limited; PackageDescription: 44-Pin Plastic Thin Quad Flat Pack (TFQP44); Code_JEDEC: MS-026-ACB; ComponentLink1Description: Manufacturer Link; ComponentLink1URL: http://www.altera.com/products/devices/max7k/m7k-index.html; ComponentLink2Description: Datasheet; ComponentLink2URL: http://www.altera.com/literature/ds/m7000b.pdf; ComponentLink3Description: Packaging Specification; ComponentLink3URL: http://www.altera.com/literature/ds/dspkg.pdf
footprint TQFP44_N (Thin QFP, 44-Leads, Body 10x10mm, Pitch 0.8mm, IPC Medium Density)
footprint TQFP44_L (Thin QFP, 44-Leads, Body 10x10mm, Pitch 0.8mm, IPC High Density)
footprint TQFP44_M (Thin QFP, 44-Leads, Body 10x10mm, Pitch 0.8mm, IPC Low Density)
3D model EPM7064B-TQFP44 (44-Pin Plastic Thin Quad Flat Pack (TFQP44))
signal-integrity model 7kb (MAX 7000B)
part A pins: 2 IO (io), 3 IO (io), 6 IO (io), 42 IO (io), 43 IO (io), 44 IO (io)
part B pins: 8 IO (io), 10 IO (io), 11 IO (io), 12 IO (io), 13 IO (io), 14 IO (io), 15 IO (io)
part C pins: 18 IO (io), 19 IO (io), 20 IO (io), 21 IO (io), 22 IO (io), 23 IO (io)
part D pins: 27 IO (io), 28 IO (io), 30 IO (io), 31 IO (io), 33 IO (io), 34 IO (io), 35 IO (io)
part E pins: 37 INPUT/GCLK1 (in), 38 INPUT/OE1 (in), 39 INPUT/GCLRn (in), 40 INPUT/OE2/GCLK2 (in)
part F pins: 1 TDI/IO (io), 5 IO/VREFA (io), 7 TMS/IO (io), 25 IO/VREFB (io), 26 TCK/IO (io), 32 TDO/IO (io)
part G pins: 9 VCCIO1 (1.8 V, 2.5 V OR 3.3 V) (power), 17 VCCINT (2.5 V) (power), 29 VCCIO2 (1.8 V, 2.5 V OR 3.3 V) (power), 41 VCCINT (2.5 V) (power)
part H pins: 4 GNDIO (power), 16 GNDINT (power), 24 GNDIO (power), 36 GNDINT (power)
part A text: BANK A
part B text: BANK B
part C text: BANK C
part D text: BANK D

## EPM7064BTI44-5
designator U?
Max 7000B 2.5V CPLD, 64 Macrocells, 44-Pin TQFP, Speed Grade 5, Industrial Grade; Published: 17-Sep-2003; LatestRevisionDate: 13-Apr-2006; LatestRevisionNote: IPC-7351 Footprint Added.; DatasheetVersion: ver3.5, Sep-2005; PackageVersion: ver14.3, Jul-2006; PackageReference: TQFP44; Publisher: Altium Limited; PackageDescription: 44-Pin Plastic Thin Quad Flat Pack (TFQP44); Code_JEDEC: MS-026-ACB; ComponentLink1Description: Manufacturer Link; ComponentLink1URL: http://www.altera.com/products/devices/max7k/m7k-index.html; ComponentLink2Description: Datasheet; ComponentLink2URL: http://www.altera.com/literature/ds/m7000b.pdf; ComponentLink3Description: Packaging Specification; ComponentLink3URL: http://www.altera.com/literature/ds/dspkg.pdf
footprint TQFP44_N (Thin QFP, 44-Leads, Body 10x10mm, Pitch 0.8mm, IPC Medium Density)
footprint TQFP44_L (Thin QFP, 44-Leads, Body 10x10mm, Pitch 0.8mm, IPC High Density)
footprint TQFP44_M (Thin QFP, 44-Leads, Body 10x10mm, Pitch 0.8mm, IPC Low Density)
3D model EPM7064B-TQFP44 (44-Pin Plastic Thin Quad Flat Pack (TFQP44))
signal-integrity model 7kb (MAX 7000B)
part A pins: 2 IO (io), 3 IO (io), 6 IO (io), 42 IO (io), 43 IO (io), 44 IO (io)
part B pins: 8 IO (io), 10 IO (io), 11 IO (io), 12 IO (io), 13 IO (io), 14 IO (io), 15 IO (io)
part C pins: 18 IO (io), 19 IO (io), 20 IO (io), 21 IO (io), 22 IO (io), 23 IO (io)
part D pins: 27 IO (io), 28 IO (io), 30 IO (io), 31 IO (io), 33 IO (io), 34 IO (io), 35 IO (io)
part E pins: 37 INPUT/GCLK1 (in), 38 INPUT/OE1 (in), 39 INPUT/GCLRn (in), 40 INPUT/OE2/GCLK2 (in)
part F pins: 1 TDI/IO (io), 5 IO/VREFA (io), 7 TMS/IO (io), 25 IO/VREFB (io), 26 TCK/IO (io), 32 TDO/IO (io)
part G pins: 9 VCCIO1 (1.8 V, 2.5 V OR 3.3 V) (power), 17 VCCINT (2.5 V) (power), 29 VCCIO2 (1.8 V, 2.5 V OR 3.3 V) (power), 41 VCCINT (2.5 V) (power)
part H pins: 4 GNDIO (power), 16 GNDINT (power), 24 GNDIO (power), 36 GNDINT (power)
part A text: BANK A
part B text: BANK B
part C text: BANK C
part D text: BANK D

## EPM7064BTI44-5N
designator U?
Max 7000B 2.5V CPLD, 64 Macrocells, 44-Pin TQFP, Speed Grade 5, Industrial Grade, Pb-Free; Published: 13-Apr-2006; DatasheetVersion: ver3.5, Sep-2005; PackageVersion: ver14.3, Jul-2006; PackageReference: TQFP44; Publisher: Altium Limited; PackageDescription: 44-Pin Plastic Thin Quad Flat Pack (TFQP44); Code_JEDEC: MS-026-ACB; ComponentLink1Description: Manufacturer Link; ComponentLink1URL: http://www.altera.com/products/devices/max7k/m7k-index.html; ComponentLink2Description: Datasheet; ComponentLink2URL: http://www.altera.com/literature/ds/m7000b.pdf; ComponentLink3Description: Packaging Specification; ComponentLink3URL: http://www.altera.com/literature/ds/dspkg.pdf
footprint TQFP44_N (Thin QFP, 44-Leads, Body 10x10mm, Pitch 0.8mm, IPC Medium Density)
footprint TQFP44_L (Thin QFP, 44-Leads, Body 10x10mm, Pitch 0.8mm, IPC High Density)
footprint TQFP44_M (Thin QFP, 44-Leads, Body 10x10mm, Pitch 0.8mm, IPC Low Density)
3D model EPM7064B-TQFP44 (44-Pin Plastic Thin Quad Flat Pack (TFQP44))
signal-integrity model 7kb (MAX 7000B)
part A pins: 2 IO (io), 3 IO (io), 6 IO (io), 42 IO (io), 43 IO (io), 44 IO (io)
part B pins: 8 IO (io), 10 IO (io), 11 IO (io), 12 IO (io), 13 IO (io), 14 IO (io), 15 IO (io)
part C pins: 18 IO (io), 19 IO (io), 20 IO (io), 21 IO (io), 22 IO (io), 23 IO (io)
part D pins: 27 IO (io), 28 IO (io), 30 IO (io), 31 IO (io), 33 IO (io), 34 IO (io), 35 IO (io)
part E pins: 37 INPUT/GCLK1 (in), 38 INPUT/OE1 (in), 39 INPUT/GCLRn (in), 40 INPUT/OE2/GCLK2 (in)
part F pins: 1 TDI/IO (io), 5 IO/VREFA (io), 7 TMS/IO (io), 25 IO/VREFB (io), 26 TCK/IO (io), 32 TDO/IO (io)
part G pins: 9 VCCIO1 (1.8 V, 2.5 V OR 3.3 V) (power), 17 VCCINT (2.5 V) (power), 29 VCCIO2 (1.8 V, 2.5 V OR 3.3 V) (power), 41 VCCINT (2.5 V) (power)
part H pins: 4 GNDIO (power), 16 GNDINT (power), 24 GNDIO (power), 36 GNDINT (power)
part A text: BANK A
part B text: BANK B
part C text: BANK C
part D text: BANK D

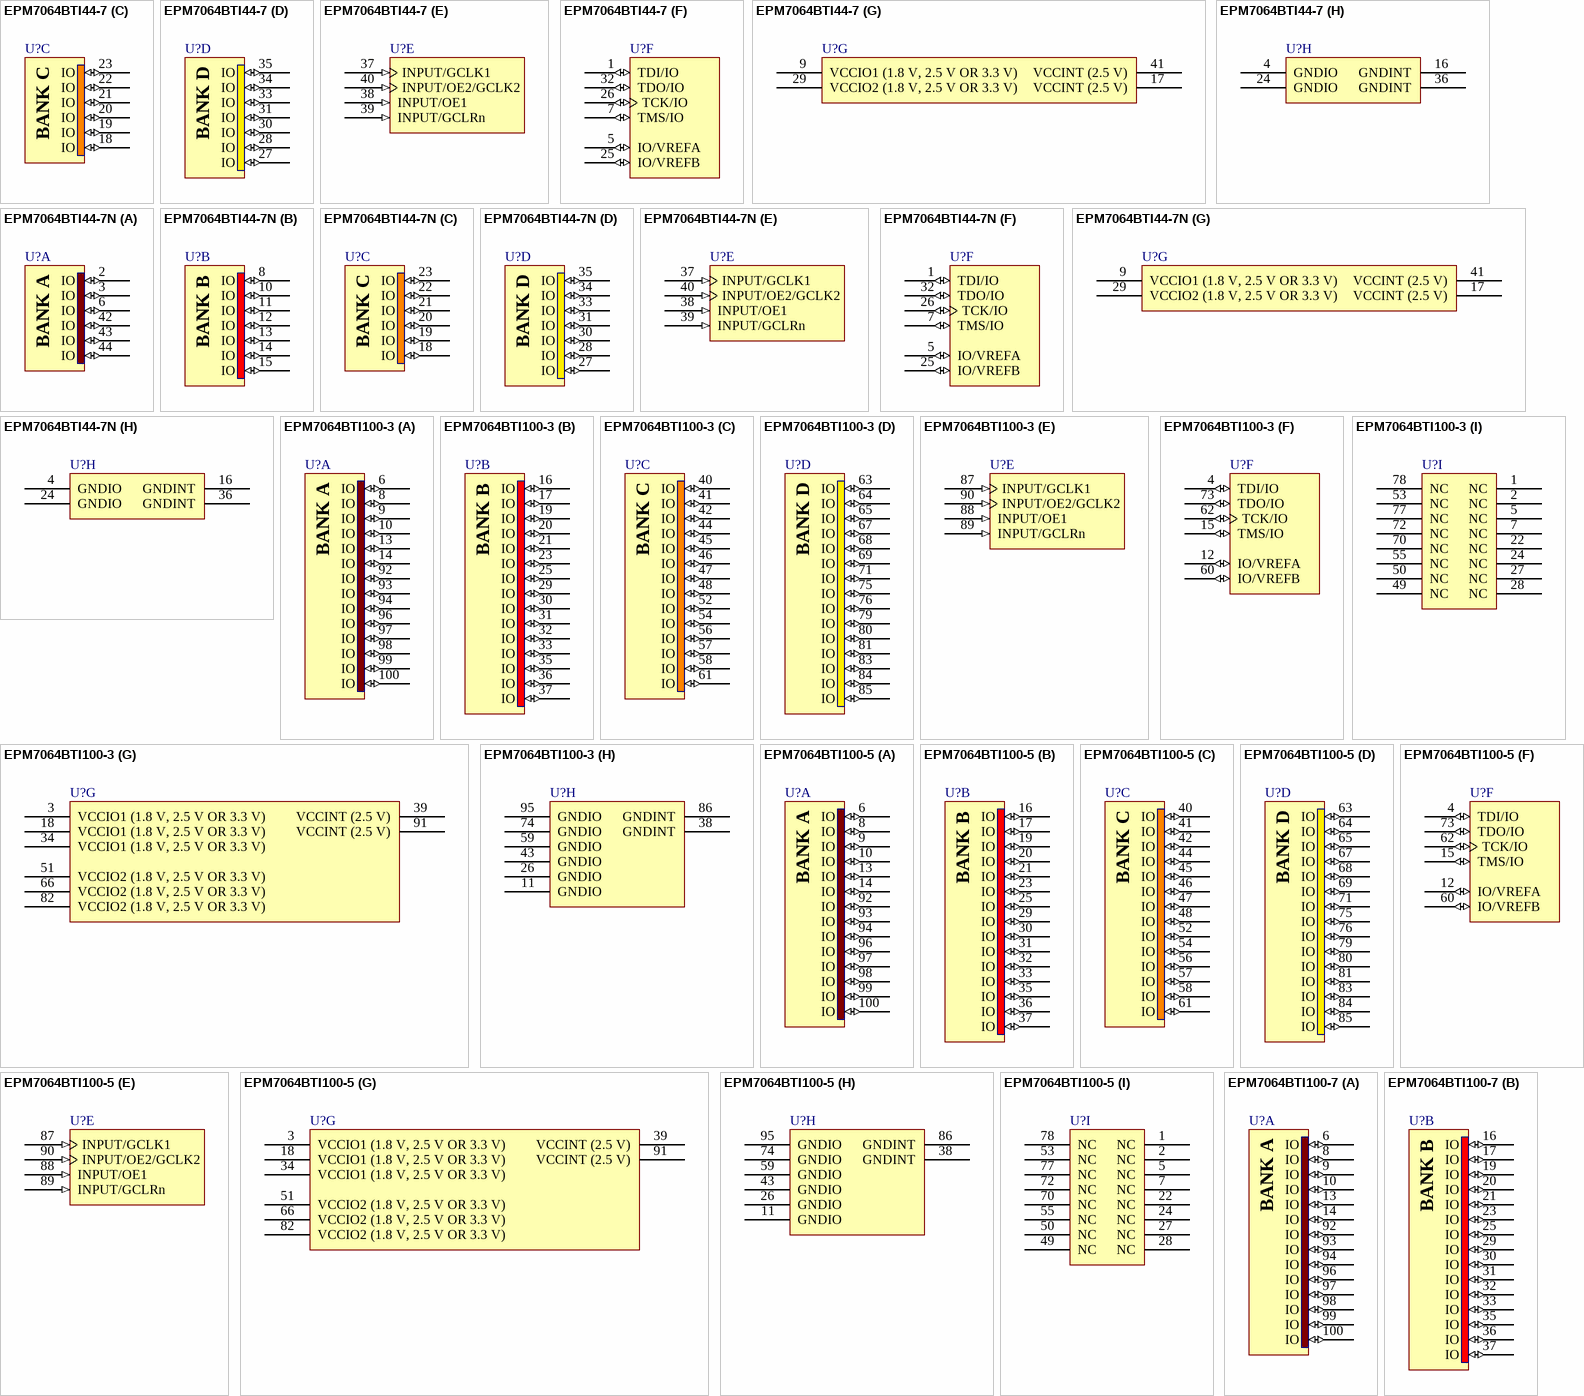
[diagram p8: symbols EPM7064BTI44-7 to EPM7064BTI100-7]

## EPM7064BTI44-7
designator U?
Max 7000B 2.5V CPLD, 64 Macrocells, 44-Pin TQFP, Speed Grade 7, Industrial Grade; Published: 17-Sep-2003; LatestRevisionDate: 13-Apr-2006; LatestRevisionNote: IPC-7351 Footprint Added.; DatasheetVersion: ver3.5, Sep-2005; PackageVersion: ver14.3, Jul-2006; PackageReference: TQFP44; Publisher: Altium Limited; PackageDescription: 44-Pin Plastic Thin Quad Flat Pack (TFQP44); Code_JEDEC: MS-026-ACB; ComponentLink1Description: Manufacturer Link; ComponentLink1URL: http://www.altera.com/products/devices/max7k/m7k-index.html; ComponentLink2Description: Datasheet; ComponentLink2URL: http://www.altera.com/literature/ds/m7000b.pdf; ComponentLink3Description: Packaging Specification; ComponentLink3URL: http://www.altera.com/literature/ds/dspkg.pdf
footprint TQFP44_N (Thin QFP, 44-Leads, Body 10x10mm, Pitch 0.8mm, IPC Medium Density)
footprint TQFP44_L (Thin QFP, 44-Leads, Body 10x10mm, Pitch 0.8mm, IPC High Density)
footprint TQFP44_M (Thin QFP, 44-Leads, Body 10x10mm, Pitch 0.8mm, IPC Low Density)
3D model EPM7064B-TQFP44 (44-Pin Plastic Thin Quad Flat Pack (TFQP44))
signal-integrity model 7kb (MAX 7000B)
part A pins: 2 IO (io), 3 IO (io), 6 IO (io), 42 IO (io), 43 IO (io), 44 IO (io)
part B pins: 8 IO (io), 10 IO (io), 11 IO (io), 12 IO (io), 13 IO (io), 14 IO (io), 15 IO (io)
part C pins: 18 IO (io), 19 IO (io), 20 IO (io), 21 IO (io), 22 IO (io), 23 IO (io)
part D pins: 27 IO (io), 28 IO (io), 30 IO (io), 31 IO (io), 33 IO (io), 34 IO (io), 35 IO (io)
part E pins: 37 INPUT/GCLK1 (in), 38 INPUT/OE1 (in), 39 INPUT/GCLRn (in), 40 INPUT/OE2/GCLK2 (in)
part F pins: 1 TDI/IO (io), 5 IO/VREFA (io), 7 TMS/IO (io), 25 IO/VREFB (io), 26 TCK/IO (io), 32 TDO/IO (io)
part G pins: 9 VCCIO1 (1.8 V, 2.5 V OR 3.3 V) (power), 17 VCCINT (2.5 V) (power), 29 VCCIO2 (1.8 V, 2.5 V OR 3.3 V) (power), 41 VCCINT (2.5 V) (power)
part H pins: 4 GNDIO (power), 16 GNDINT (power), 24 GNDIO (power), 36 GNDINT (power)
part A text: BANK A
part B text: BANK B
part C text: BANK C
part D text: BANK D

## EPM7064BTI44-7N
designator U?
Max 7000B 2.5V CPLD, 64 Macrocells, 44-Pin TQFP, Speed Grade 7, Industrial Grade, Pb-Free; Published: 13-Apr-2006; DatasheetVersion: ver3.5, Sep-2005; PackageVersion: ver14.3, Jul-2006; PackageReference: TQFP44; Publisher: Altium Limited; PackageDescription: 44-Pin Plastic Thin Quad Flat Pack (TFQP44); Code_JEDEC: MS-026-ACB; ComponentLink1Description: Manufacturer Link; ComponentLink1URL: http://www.altera.com/products/devices/max7k/m7k-index.html; ComponentLink2Description: Datasheet; ComponentLink2URL: http://www.altera.com/literature/ds/m7000b.pdf; ComponentLink3Description: Packaging Specification; ComponentLink3URL: http://www.altera.com/literature/ds/dspkg.pdf
footprint TQFP44_N (Thin QFP, 44-Leads, Body 10x10mm, Pitch 0.8mm, IPC Medium Density)
footprint TQFP44_L (Thin QFP, 44-Leads, Body 10x10mm, Pitch 0.8mm, IPC High Density)
footprint TQFP44_M (Thin QFP, 44-Leads, Body 10x10mm, Pitch 0.8mm, IPC Low Density)
3D model EPM7064B-TQFP44 (44-Pin Plastic Thin Quad Flat Pack (TFQP44))
signal-integrity model 7kb (MAX 7000B)
part A pins: 2 IO (io), 3 IO (io), 6 IO (io), 42 IO (io), 43 IO (io), 44 IO (io)
part B pins: 8 IO (io), 10 IO (io), 11 IO (io), 12 IO (io), 13 IO (io), 14 IO (io), 15 IO (io)
part C pins: 18 IO (io), 19 IO (io), 20 IO (io), 21 IO (io), 22 IO (io), 23 IO (io)
part D pins: 27 IO (io), 28 IO (io), 30 IO (io), 31 IO (io), 33 IO (io), 34 IO (io), 35 IO (io)
part E pins: 37 INPUT/GCLK1 (in), 38 INPUT/OE1 (in), 39 INPUT/GCLRn (in), 40 INPUT/OE2/GCLK2 (in)
part F pins: 1 TDI/IO (io), 5 IO/VREFA (io), 7 TMS/IO (io), 25 IO/VREFB (io), 26 TCK/IO (io), 32 TDO/IO (io)
part G pins: 9 VCCIO1 (1.8 V, 2.5 V OR 3.3 V) (power), 17 VCCINT (2.5 V) (power), 29 VCCIO2 (1.8 V, 2.5 V OR 3.3 V) (power), 41 VCCINT (2.5 V) (power)
part H pins: 4 GNDIO (power), 16 GNDINT (power), 24 GNDIO (power), 36 GNDINT (power)
part A text: BANK A
part B text: BANK B
part C text: BANK C
part D text: BANK D

## EPM7064BTI100-3
designator U?
Max 7000B 2.5V CPLD, 64 Macrocells, 100-Pin TQFP, Speed Grade 3, Industrial Grade; Published: 17-Sep-2003; LatestRevisionDate: 13-Apr-2006; LatestRevisionNote: IPC-7351 Footprint Added.; DatasheetVersion: ver3.5, Sep-2005; PackageVersion: ver15.1, May-2008; PackageReference: TQFP100; Publisher: Altium Limited; PackageDescription: 100-Pin Plastic Thin Quad Flat Pack (TQFP100) - Wire Bond; Code_JEDEC: MS-026-AED; ComponentLink1Description: Manufacturer Link; ComponentLink1URL: http://www.altera.com/products/devices/max7k/m7k-index.html; ComponentLink2Description: Datasheet; ComponentLink2URL: http://www.altera.com/literature/ds/m7000b.pdf; ComponentLink3Description: Packaging Specification; ComponentLink3URL: http://www.altera.com/literature/ds/dspkg.pdf
footprint TQFP100_N (Thin QFP, 100-Leads, Body 14x14mm, Pitch 0.5mm, IPC Medium Density)
footprint TQFP100_L (Thin QFP, 100-Leads, Body 14x14mm, Pitch 0.5mm, IPC High Density)
footprint TQFP100_M (Thin QFP, 100-Leads, Body 14x14mm, Pitch 0.5mm, IPC Low Density)
3D model EPM7064B-TQFP100 (100-Pin Plastic Thin Quad Flat Pack (TQFP100) - Wire Bond)
signal-integrity model 7kb (MAX 7000B)
part A pins: 6 IO (io), 8 IO (io), 9 IO (io), 10 IO (io), 13 IO (io), 14 IO (io), 92 IO (io), 93 IO (io), 94 IO (io), 96 IO (io), 97 IO (io), 98 IO (io), 99 IO (io), 100 IO (io)
part B pins: 16 IO (io), 17 IO (io), 19 IO (io), 20 IO (io), 21 IO (io), 23 IO (io), 25 IO (io), 29 IO (io), 30 IO (io), 31 IO (io), 32 IO (io), 33 IO (io), 35 IO (io), 36 IO (io), 37 IO (io)
part C pins: 40 IO (io), 41 IO (io), 42 IO (io), 44 IO (io), 45 IO (io), 46 IO (io), 47 IO (io), 48 IO (io), 52 IO (io), 54 IO (io), 56 IO (io), 57 IO (io), 58 IO (io), 61 IO (io)
part D pins: 63 IO (io), 64 IO (io), 65 IO (io), 67 IO (io), 68 IO (io), 69 IO (io), 71 IO (io), 75 IO (io), 76 IO (io), 79 IO (io), 80 IO (io), 81 IO (io), 83 IO (io), 84 IO (io), 85 IO (io)
part E pins: 87 INPUT/GCLK1 (in), 88 INPUT/OE1 (in), 89 INPUT/GCLRn (in), 90 INPUT/OE2/GCLK2 (in)
part F pins: 4 TDI/IO (io), 12 IO/VREFA (io), 15 TMS/IO (io), 60 IO/VREFB (io), 62 TCK/IO (io), 73 TDO/IO (io)
part G pins: 3 VCCIO1 (1.8 V, 2.5 V OR 3.3 V) (power), 18 VCCIO1 (1.8 V, 2.5 V OR 3.3 V) (power), 34 VCCIO1 (1.8 V, 2.5 V OR 3.3 V) (power), 39 VCCINT (2.5 V) (power), 51 VCCIO2 (1.8 V, 2.5 V OR 3.3 V) (power), 66 VCCIO2 (1.8 V, 2.5 V OR 3.3 V) (power), 82 VCCIO2 (1.8 V, 2.5 V OR 3.3 V) (power), 91 VCCINT (2.5 V) (power)
part H pins: 11 GNDIO (power), 26 GNDIO (power), 38 GNDINT (power), 43 GNDIO (power), 59 GNDIO (power), 74 GNDIO (power), 86 GNDINT (power), 95 GNDIO (power)
part I pins: 1 NC, 2 NC, 5 NC, 7 NC, 22 NC, 24 NC, 27 NC, 28 NC, 49 NC, 50 NC, 53 NC, 55 NC, 70 NC, 72 NC, 77 NC, 78 NC
part A text: BANK A
part B text: BANK B
part C text: BANK C
part D text: BANK D

## EPM7064BTI100-5
designator U?
Max 7000B 2.5V CPLD, 64 Macrocells, 100-Pin TQFP, Speed Grade 5, Industrial Grade; Published: 17-Sep-2003; LatestRevisionDate: 13-Apr-2006; LatestRevisionNote: IPC-7351 Footprint Added.; DatasheetVersion: ver3.5, Sep-2005; PackageVersion: ver15.1, May-2008; PackageReference: TQFP100; Publisher: Altium Limited; PackageDescription: 100-Pin Plastic Thin Quad Flat Pack (TQFP100) - Wire Bond; Code_JEDEC: MS-026-AED; ComponentLink1Description: Manufacturer Link; ComponentLink1URL: http://www.altera.com/products/devices/max7k/m7k-index.html; ComponentLink2Description: Datasheet; ComponentLink2URL: http://www.altera.com/literature/ds/m7000b.pdf; ComponentLink3Description: Packaging Specification; ComponentLink3URL: http://www.altera.com/literature/ds/dspkg.pdf
footprint TQFP100_N (Thin QFP, 100-Leads, Body 14x14mm, Pitch 0.5mm, IPC Medium Density)
footprint TQFP100_L (Thin QFP, 100-Leads, Body 14x14mm, Pitch 0.5mm, IPC High Density)
footprint TQFP100_M (Thin QFP, 100-Leads, Body 14x14mm, Pitch 0.5mm, IPC Low Density)
3D model EPM7064B-TQFP100 (100-Pin Plastic Thin Quad Flat Pack (TQFP100) - Wire Bond)
signal-integrity model 7kb (MAX 7000B)
part A pins: 6 IO (io), 8 IO (io), 9 IO (io), 10 IO (io), 13 IO (io), 14 IO (io), 92 IO (io), 93 IO (io), 94 IO (io), 96 IO (io), 97 IO (io), 98 IO (io), 99 IO (io), 100 IO (io)
part B pins: 16 IO (io), 17 IO (io), 19 IO (io), 20 IO (io), 21 IO (io), 23 IO (io), 25 IO (io), 29 IO (io), 30 IO (io), 31 IO (io), 32 IO (io), 33 IO (io), 35 IO (io), 36 IO (io), 37 IO (io)
part C pins: 40 IO (io), 41 IO (io), 42 IO (io), 44 IO (io), 45 IO (io), 46 IO (io), 47 IO (io), 48 IO (io), 52 IO (io), 54 IO (io), 56 IO (io), 57 IO (io), 58 IO (io), 61 IO (io)
part D pins: 63 IO (io), 64 IO (io), 65 IO (io), 67 IO (io), 68 IO (io), 69 IO (io), 71 IO (io), 75 IO (io), 76 IO (io), 79 IO (io), 80 IO (io), 81 IO (io), 83 IO (io), 84 IO (io), 85 IO (io)
part E pins: 87 INPUT/GCLK1 (in), 88 INPUT/OE1 (in), 89 INPUT/GCLRn (in), 90 INPUT/OE2/GCLK2 (in)
part F pins: 4 TDI/IO (io), 12 IO/VREFA (io), 15 TMS/IO (io), 60 IO/VREFB (io), 62 TCK/IO (io), 73 TDO/IO (io)
part G pins: 3 VCCIO1 (1.8 V, 2.5 V OR 3.3 V) (power), 18 VCCIO1 (1.8 V, 2.5 V OR 3.3 V) (power), 34 VCCIO1 (1.8 V, 2.5 V OR 3.3 V) (power), 39 VCCINT (2.5 V) (power), 51 VCCIO2 (1.8 V, 2.5 V OR 3.3 V) (power), 66 VCCIO2 (1.8 V, 2.5 V OR 3.3 V) (power), 82 VCCIO2 (1.8 V, 2.5 V OR 3.3 V) (power), 91 VCCINT (2.5 V) (power)
part H pins: 11 GNDIO (power), 26 GNDIO (power), 38 GNDINT (power), 43 GNDIO (power), 59 GNDIO (power), 74 GNDIO (power), 86 GNDINT (power), 95 GNDIO (power)
part I pins: 1 NC, 2 NC, 5 NC, 7 NC, 22 NC, 24 NC, 27 NC, 28 NC, 49 NC, 50 NC, 53 NC, 55 NC, 70 NC, 72 NC, 77 NC, 78 NC
part A text: BANK A
part B text: BANK B
part C text: BANK C
part D text: BANK D

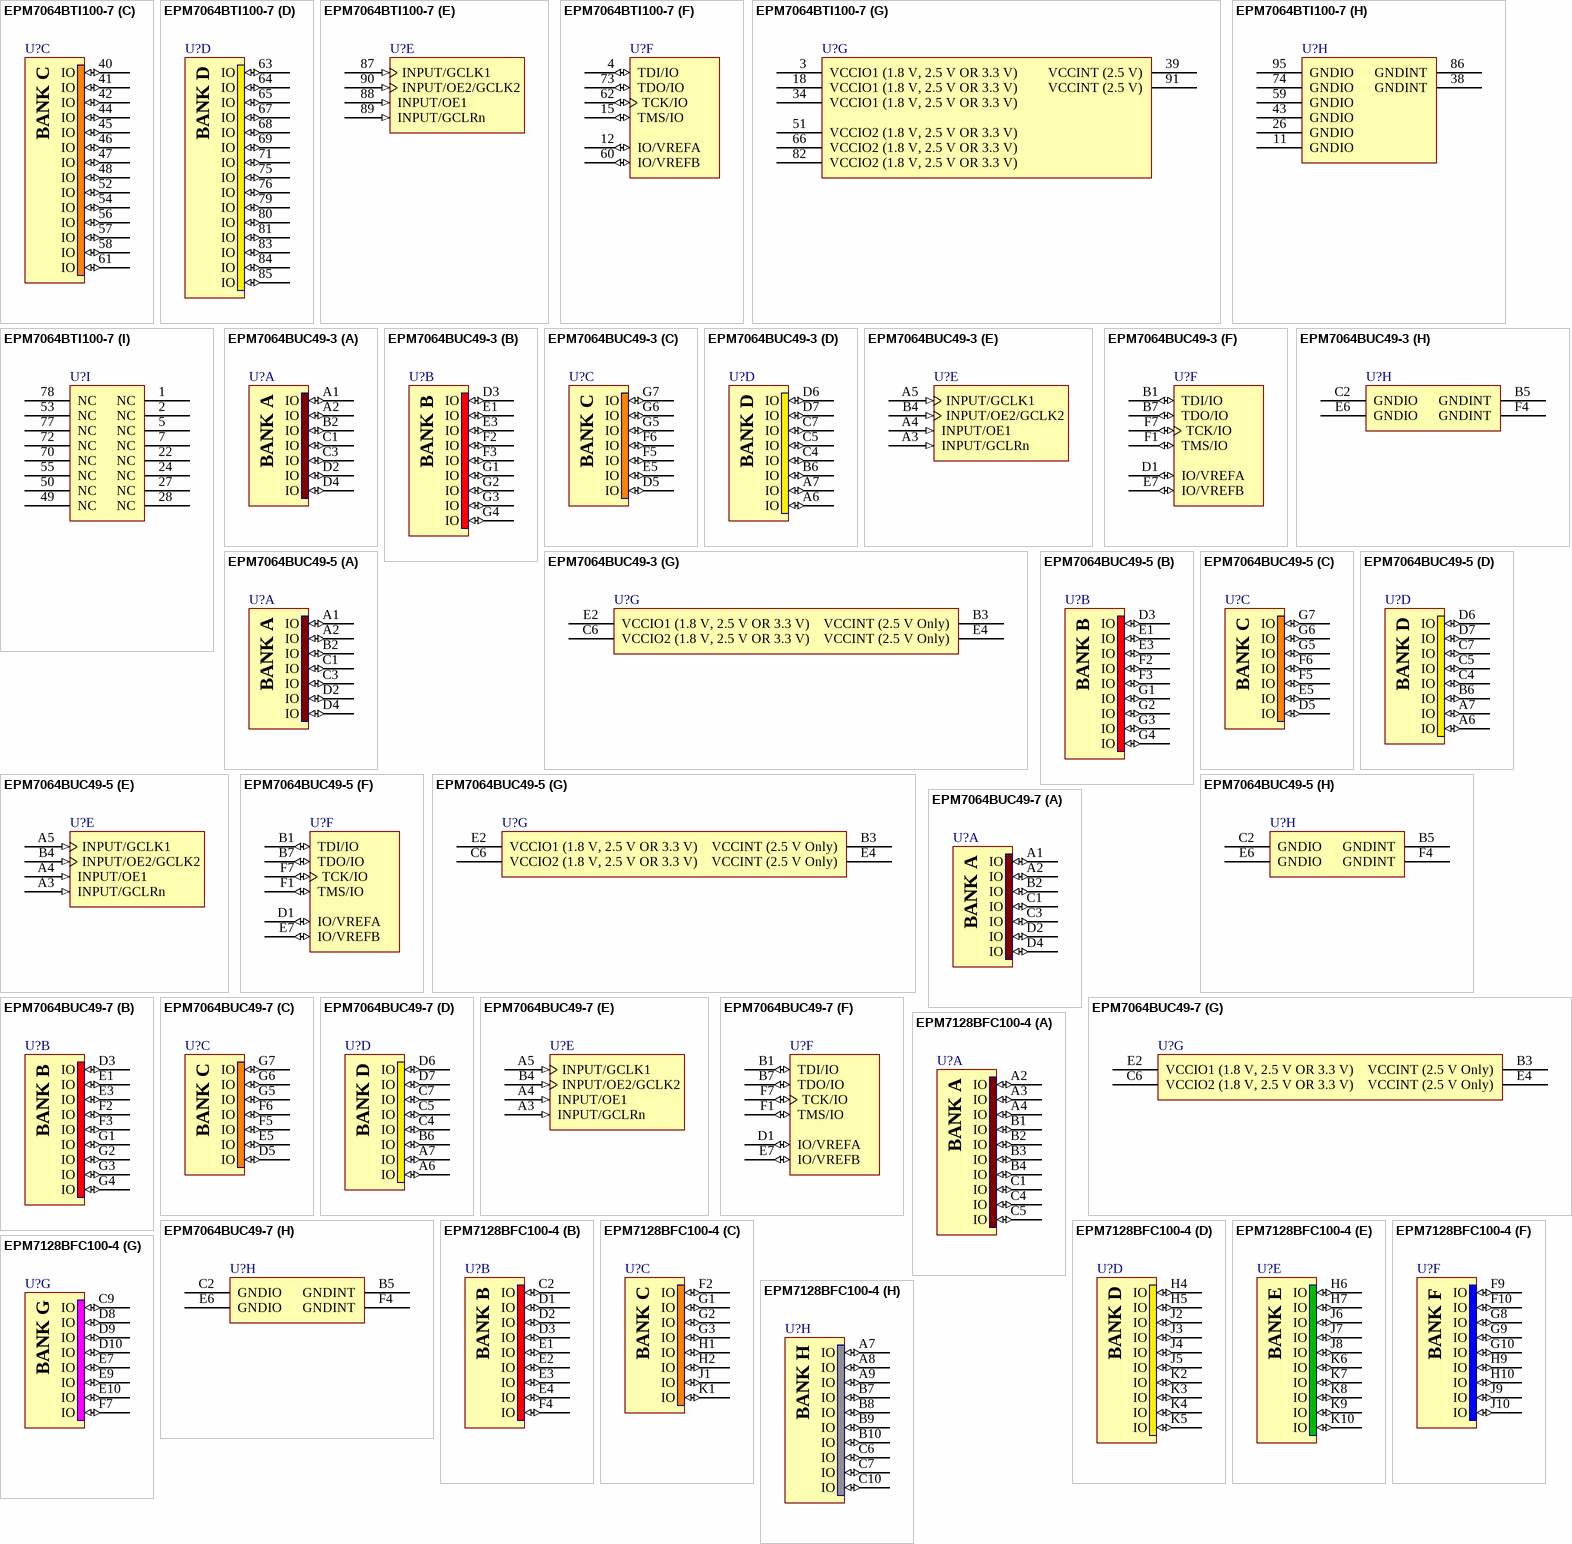
[diagram p9: symbols EPM7064BTI100-7 to EPM7128BFC100-4]

## EPM7064BTI100-7
designator U?
Max 7000B 2.5V CPLD, 64 Macrocells, 100-Pin TQFP, Speed Grade 7, Industrial Grade; Published: 17-Sep-2003; LatestRevisionDate: 13-Apr-2006; LatestRevisionNote: IPC-7351 Footprint Added.; DatasheetVersion: ver3.5, Sep-2005; PackageVersion: ver15.1, May-2008; PackageReference: TQFP100; Publisher: Altium Limited; PackageDescription: 100-Pin Plastic Thin Quad Flat Pack (TQFP100) - Wire Bond; Code_JEDEC: MS-026-AED; ComponentLink1Description: Manufacturer Link; ComponentLink1URL: http://www.altera.com/products/devices/max7k/m7k-index.html; ComponentLink2Description: Datasheet; ComponentLink2URL: http://www.altera.com/literature/ds/m7000b.pdf; ComponentLink3Description: Packaging Specification; ComponentLink3URL: http://www.altera.com/literature/ds/dspkg.pdf
footprint TQFP100_N (Thin QFP, 100-Leads, Body 14x14mm, Pitch 0.5mm, IPC Medium Density)
footprint TQFP100_L (Thin QFP, 100-Leads, Body 14x14mm, Pitch 0.5mm, IPC High Density)
footprint TQFP100_M (Thin QFP, 100-Leads, Body 14x14mm, Pitch 0.5mm, IPC Low Density)
3D model EPM7064B-TQFP100 (100-Pin Plastic Thin Quad Flat Pack (TQFP100) - Wire Bond)
signal-integrity model 7kb (MAX 7000B)
part A pins: 6 IO (io), 8 IO (io), 9 IO (io), 10 IO (io), 13 IO (io), 14 IO (io), 92 IO (io), 93 IO (io), 94 IO (io), 96 IO (io), 97 IO (io), 98 IO (io), 99 IO (io), 100 IO (io)
part B pins: 16 IO (io), 17 IO (io), 19 IO (io), 20 IO (io), 21 IO (io), 23 IO (io), 25 IO (io), 29 IO (io), 30 IO (io), 31 IO (io), 32 IO (io), 33 IO (io), 35 IO (io), 36 IO (io), 37 IO (io)
part C pins: 40 IO (io), 41 IO (io), 42 IO (io), 44 IO (io), 45 IO (io), 46 IO (io), 47 IO (io), 48 IO (io), 52 IO (io), 54 IO (io), 56 IO (io), 57 IO (io), 58 IO (io), 61 IO (io)
part D pins: 63 IO (io), 64 IO (io), 65 IO (io), 67 IO (io), 68 IO (io), 69 IO (io), 71 IO (io), 75 IO (io), 76 IO (io), 79 IO (io), 80 IO (io), 81 IO (io), 83 IO (io), 84 IO (io), 85 IO (io)
part E pins: 87 INPUT/GCLK1 (in), 88 INPUT/OE1 (in), 89 INPUT/GCLRn (in), 90 INPUT/OE2/GCLK2 (in)
part F pins: 4 TDI/IO (io), 12 IO/VREFA (io), 15 TMS/IO (io), 60 IO/VREFB (io), 62 TCK/IO (io), 73 TDO/IO (io)
part G pins: 3 VCCIO1 (1.8 V, 2.5 V OR 3.3 V) (power), 18 VCCIO1 (1.8 V, 2.5 V OR 3.3 V) (power), 34 VCCIO1 (1.8 V, 2.5 V OR 3.3 V) (power), 39 VCCINT (2.5 V) (power), 51 VCCIO2 (1.8 V, 2.5 V OR 3.3 V) (power), 66 VCCIO2 (1.8 V, 2.5 V OR 3.3 V) (power), 82 VCCIO2 (1.8 V, 2.5 V OR 3.3 V) (power), 91 VCCINT (2.5 V) (power)
part H pins: 11 GNDIO (power), 26 GNDIO (power), 38 GNDINT (power), 43 GNDIO (power), 59 GNDIO (power), 74 GNDIO (power), 86 GNDINT (power), 95 GNDIO (power)
part I pins: 1 NC, 2 NC, 5 NC, 7 NC, 22 NC, 24 NC, 27 NC, 28 NC, 49 NC, 50 NC, 53 NC, 55 NC, 70 NC, 72 NC, 77 NC, 78 NC
part A text: BANK A
part B text: BANK B
part C text: BANK C
part D text: BANK D

## EPM7064BUC49-3
designator U?
Max 7000B 2.5V CPLD, 64 Macrocells, 49-Pin UFBGA, Speed Grade 3, Commercial Grade; Published: 17-Sep-2003; LatestRevisionDate: 13-Apr-2006; LatestRevisionNote: IPC-7351 Footprint Added.; DatasheetVersion: ver3.5, Sep-2005; PackageVersion: ver15.4, Dec-2008; PackageReference: UBGA49; Publisher: Altium Limited; PackageDescription: 49-Ball Ultra FineLine Ball Grid Array (UBGA49) - Wire Bond; Code_JEDEC: MO-216-BAB-2; ComponentLink1Description: Manufacturer Link; ComponentLink1URL: http://www.altera.com/products/devices/max7k/m7k-index.html; ComponentLink2Description: Datasheet; ComponentLink2URL: http://www.altera.com/literature/ds/m7000b.pdf; ComponentLink3Description: Packaging Specification; ComponentLink3URL: http://www.altera.com/literature/ds/dspkg.pdf
footprint UBGA49 (BGA, 49-Leads, Body 7x7mm, Pitch 0.8mm)
3D model EPM7064B-UBGA49 (49-Ball Ultra FineLine Ball Grid Array (UBGA49) - Wire Bond)
signal-integrity model 7kb (MAX 7000B)
part A pins: A1 IO (io), A2 IO (io), B2 IO (io), C1 IO (io), C3 IO (io), D2 IO (io), D4 IO (io)
part B pins: D3 IO (io), E1 IO (io), E3 IO (io), F2 IO (io), F3 IO (io), G1 IO (io), G2 IO (io), G3 IO (io), G4 IO (io)
part C pins: D5 IO (io), E5 IO (io), F5 IO (io), F6 IO (io), G5 IO (io), G6 IO (io), G7 IO (io)
part D pins: A6 IO (io), A7 IO (io), B6 IO (io), C4 IO (io), C5 IO (io), C7 IO (io), D6 IO (io), D7 IO (io)
part E pins: A3 INPUT/GCLRn (in), A4 INPUT/OE1 (in), A5 INPUT/GCLK1 (in), B4 INPUT/OE2/GCLK2 (in)
part F pins: B1 TDI/IO (io), B7 TDO/IO (io), D1 IO/VREFA (io), E7 IO/VREFB (io), F1 TMS/IO (io), F7 TCK/IO (io)
part G pins: B3 VCCINT (2.5 V Only) (power), C6 VCCIO2 (1.8 V, 2.5 V OR 3.3 V) (power), E2 VCCIO1 (1.8 V, 2.5 V OR 3.3 V) (power), E4 VCCINT (2.5 V Only) (power)
part H pins: B5 GNDINT (power), C2 GNDIO (power), E6 GNDIO (power), F4 GNDINT (power)
part A text: BANK A
part B text: BANK B
part C text: BANK C
part D text: BANK D

## EPM7064BUC49-5
designator U?
Max 7000B 2.5V CPLD, 64 Macrocells, 49-Pin UFBGA, Speed Grade 5, Commercial Grade; Published: 17-Sep-2003; LatestRevisionDate: 13-Apr-2006; LatestRevisionNote: IPC-7351 Footprint Added.; DatasheetVersion: ver3.5, Sep-2005; PackageVersion: ver15.4, Dec-2008; PackageReference: UBGA49; Publisher: Altium Limited; PackageDescription: 49-Ball Ultra FineLine Ball Grid Array (UBGA49) - Wire Bond; Code_JEDEC: MO-216-BAB-2; ComponentLink1Description: Manufacturer Link; ComponentLink1URL: http://www.altera.com/products/devices/max7k/m7k-index.html; ComponentLink2Description: Datasheet; ComponentLink2URL: http://www.altera.com/literature/ds/m7000b.pdf; ComponentLink3Description: Packaging Specification; ComponentLink3URL: http://www.altera.com/literature/ds/dspkg.pdf
footprint UBGA49 (BGA, 49-Leads, Body 7x7mm, Pitch 0.8mm)
3D model EPM7064B-UBGA49 (49-Ball Ultra FineLine Ball Grid Array (UBGA49) - Wire Bond)
signal-integrity model 7kb (MAX 7000B)
part A pins: A1 IO (io), A2 IO (io), B2 IO (io), C1 IO (io), C3 IO (io), D2 IO (io), D4 IO (io)
part B pins: D3 IO (io), E1 IO (io), E3 IO (io), F2 IO (io), F3 IO (io), G1 IO (io), G2 IO (io), G3 IO (io), G4 IO (io)
part C pins: D5 IO (io), E5 IO (io), F5 IO (io), F6 IO (io), G5 IO (io), G6 IO (io), G7 IO (io)
part D pins: A6 IO (io), A7 IO (io), B6 IO (io), C4 IO (io), C5 IO (io), C7 IO (io), D6 IO (io), D7 IO (io)
part E pins: A3 INPUT/GCLRn (in), A4 INPUT/OE1 (in), A5 INPUT/GCLK1 (in), B4 INPUT/OE2/GCLK2 (in)
part F pins: B1 TDI/IO (io), B7 TDO/IO (io), D1 IO/VREFA (io), E7 IO/VREFB (io), F1 TMS/IO (io), F7 TCK/IO (io)
part G pins: B3 VCCINT (2.5 V Only) (power), C6 VCCIO2 (1.8 V, 2.5 V OR 3.3 V) (power), E2 VCCIO1 (1.8 V, 2.5 V OR 3.3 V) (power), E4 VCCINT (2.5 V Only) (power)
part H pins: B5 GNDINT (power), C2 GNDIO (power), E6 GNDIO (power), F4 GNDINT (power)
part A text: BANK A
part B text: BANK B
part C text: BANK C
part D text: BANK D

## EPM7064BUC49-7
designator U?
Max 7000B 2.5V CPLD, 64 Macrocells, 49-Pin UFBGA, Speed Grade 7, Commercial Grade; Published: 17-Sep-2003; LatestRevisionDate: 13-Apr-2006; LatestRevisionNote: IPC-7351 Footprint Added.; DatasheetVersion: ver3.5, Sep-2005; PackageVersion: ver15.4, Dec-2008; PackageReference: UBGA49; Publisher: Altium Limited; PackageDescription: 49-Ball Ultra FineLine Ball Grid Array (UBGA49) - Wire Bond; Code_JEDEC: MO-216-BAB-2; ComponentLink1Description: Manufacturer Link; ComponentLink1URL: http://www.altera.com/products/devices/max7k/m7k-index.html; ComponentLink2Description: Datasheet; ComponentLink2URL: http://www.altera.com/literature/ds/m7000b.pdf; ComponentLink3Description: Packaging Specification; ComponentLink3URL: http://www.altera.com/literature/ds/dspkg.pdf
footprint UBGA49 (BGA, 49-Leads, Body 7x7mm, Pitch 0.8mm)
3D model EPM7064B-UBGA49 (49-Ball Ultra FineLine Ball Grid Array (UBGA49) - Wire Bond)
signal-integrity model 7kb (MAX 7000B)
part A pins: A1 IO (io), A2 IO (io), B2 IO (io), C1 IO (io), C3 IO (io), D2 IO (io), D4 IO (io)
part B pins: D3 IO (io), E1 IO (io), E3 IO (io), F2 IO (io), F3 IO (io), G1 IO (io), G2 IO (io), G3 IO (io), G4 IO (io)
part C pins: D5 IO (io), E5 IO (io), F5 IO (io), F6 IO (io), G5 IO (io), G6 IO (io), G7 IO (io)
part D pins: A6 IO (io), A7 IO (io), B6 IO (io), C4 IO (io), C5 IO (io), C7 IO (io), D6 IO (io), D7 IO (io)
part E pins: A3 INPUT/GCLRn (in), A4 INPUT/OE1 (in), A5 INPUT/GCLK1 (in), B4 INPUT/OE2/GCLK2 (in)
part F pins: B1 TDI/IO (io), B7 TDO/IO (io), D1 IO/VREFA (io), E7 IO/VREFB (io), F1 TMS/IO (io), F7 TCK/IO (io)
part G pins: B3 VCCINT (2.5 V Only) (power), C6 VCCIO2 (1.8 V, 2.5 V OR 3.3 V) (power), E2 VCCIO1 (1.8 V, 2.5 V OR 3.3 V) (power), E4 VCCINT (2.5 V Only) (power)
part H pins: B5 GNDINT (power), C2 GNDIO (power), E6 GNDIO (power), F4 GNDINT (power)
part A text: BANK A
part B text: BANK B
part C text: BANK C
part D text: BANK D

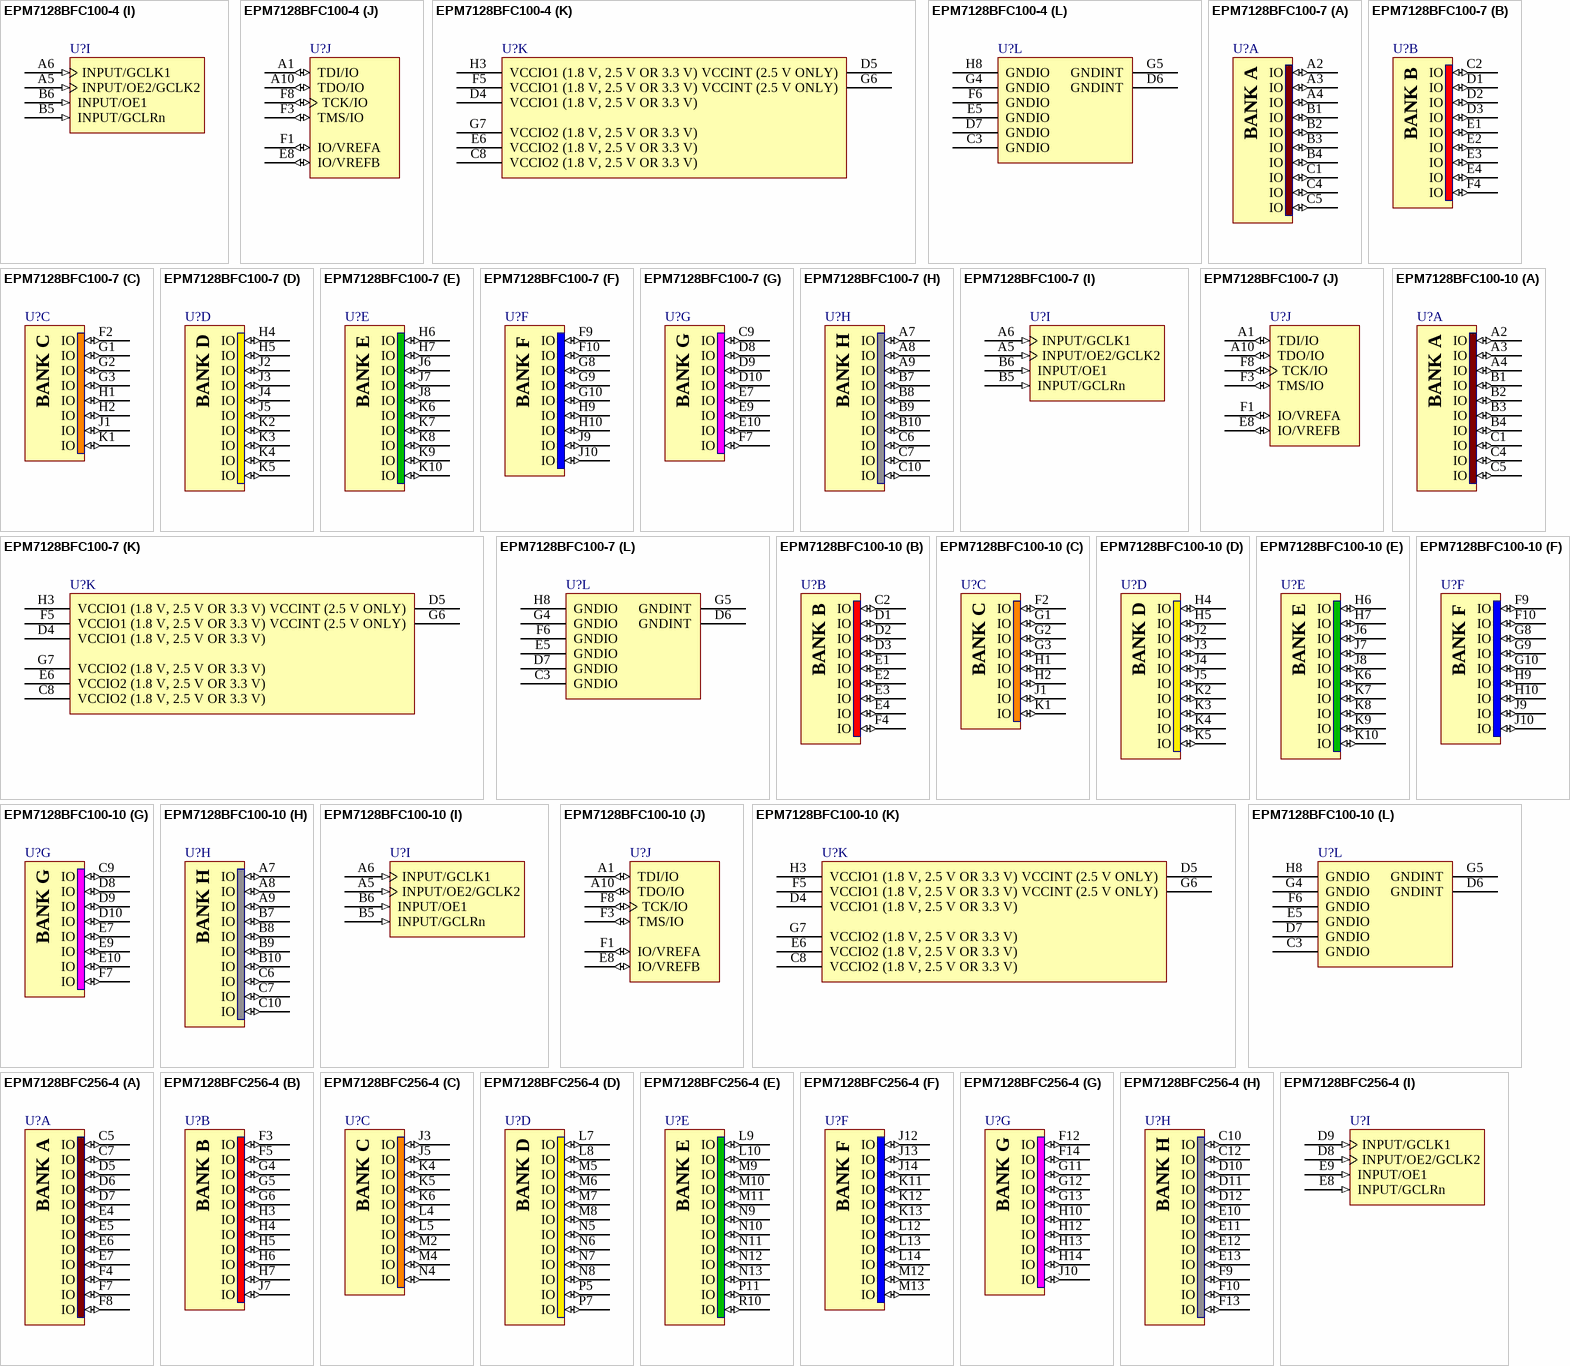
[diagram p10: symbols EPM7128BFC100-4 to EPM7128BFC256-4]

## EPM7128BFC100-4
designator U?
Max 7000B 2.5V CPLD, 128 Macrocells, 100-Pin FBGA, Speed Grade 4, Commercial Grade; Published: 23-Sep-2002; LatestRevisionDate: 13-Apr-2006; LatestRevisionNote: IPC-7351 Footprint Added.; DatasheetVersion: ver3.5, Sep-2005; PackageVersion: ver15.1, May-2008; PackageReference: FBGA100; Publisher: Altium Limited; PackageDescription: 100-Ball FineLine Ball Grid Array (FBGA100) - Option 1 - Wire Bond; Code_JEDEC: MO-192-AAC-1; Code_IPC: BGA100P10X10-100; ComponentLink1Description: Manufacturer Link; ComponentLink1URL: http://www.altera.com/products/devices/max7k/m7k-index.html; ComponentLink2Description: Datasheet; ComponentLink2URL: http://www.altera.com/literature/ds/m7000b.pdf; ComponentLink3Description: Packaging Specification; ComponentLink3URL: http://www.altera.com/literature/ds/dspkg.pdf
footprint FBGA100 (BGA, 100-Leads, Body 11x11mm, Pitch 1mm)
3D model EPM7128B-FBGA100 (100-Ball FineLine Ball Grid Array (FBGA100) - Option 1 - Wire Bond)
signal-integrity model 7kb (MAX 7000B)
part A pins: A2 IO (io), A3 IO (io), A4 IO (io), B1 IO (io), B2 IO (io), B3 IO (io), B4 IO (io), C1 IO (io), C4 IO (io), C5 IO (io)
part B pins: C2 IO (io), D1 IO (io), D2 IO (io), D3 IO (io), E1 IO (io), E2 IO (io), E3 IO (io), E4 IO (io), F4 IO (io)
part C pins: F2 IO (io), G1 IO (io), G2 IO (io), G3 IO (io), H1 IO (io), H2 IO (io), J1 IO (io), K1 IO (io)
part D pins: H4 IO (io), H5 IO (io), J2 IO (io), J3 IO (io), J4 IO (io), J5 IO (io), K2 IO (io), K3 IO (io), K4 IO (io), K5 IO (io)
part E pins: H6 IO (io), H7 IO (io), J6 IO (io), J7 IO (io), J8 IO (io), K6 IO (io), K7 IO (io), K8 IO (io), K9 IO (io), K10 IO (io)
part F pins: F9 IO (io), F10 IO (io), G8 IO (io), G9 IO (io), G10 IO (io), H9 IO (io), H10 IO (io), J9 IO (io), J10 IO (io)
part G pins: C9 IO (io), D8 IO (io), D9 IO (io), D10 IO (io), E7 IO (io), E9 IO (io), E10 IO (io), F7 IO (io)
part H pins: A7 IO (io), A8 IO (io), A9 IO (io), B7 IO (io), B8 IO (io), B9 IO (io), B10 IO (io), C6 IO (io), C7 IO (io), C10 IO (io)
part I pins: A5 INPUT/OE2/GCLK2 (in), A6 INPUT/GCLK1 (in), B5 INPUT/GCLRn (in), B6 INPUT/OE1 (in)
part J pins: A1 TDI/IO (io), A10 TDO/IO (io), E8 IO/VREFB (io), F1 IO/VREFA (io), F3 TMS/IO (io), F8 TCK/IO (io)
part K pins: C8 VCCIO2 (1.8 V, 2.5 V OR 3.3 V) (power), D4 VCCIO1 (1.8 V, 2.5 V OR 3.3 V) (power), D5 VCCINT (2.5 V ONLY) (power), E6 VCCIO2 (1.8 V, 2.5 V OR 3.3 V) (power), F5 VCCIO1 (1.8 V, 2.5 V OR 3.3 V) (power), G6 VCCINT (2.5 V ONLY) (power), G7 VCCIO2 (1.8 V, 2.5 V OR 3.3 V) (power), H3 VCCIO1 (1.8 V, 2.5 V OR 3.3 V) (power)
part L pins: C3 GNDIO (power), D6 GNDINT (power), D7 GNDIO (power), E5 GNDIO (power), F6 GNDIO (power), G4 GNDIO (power), G5 GNDINT (power), H8 GNDIO (power)
part A text: BANK A
part B text: BANK B
part C text: BANK C
part D text: BANK D
part E text: BANK E
part F text: BANK F
part G text: BANK G
part H text: BANK H